# Altium schematic symbol library UWRT Schematic Library.SchLib: 510 symbols (part 2 of 5)
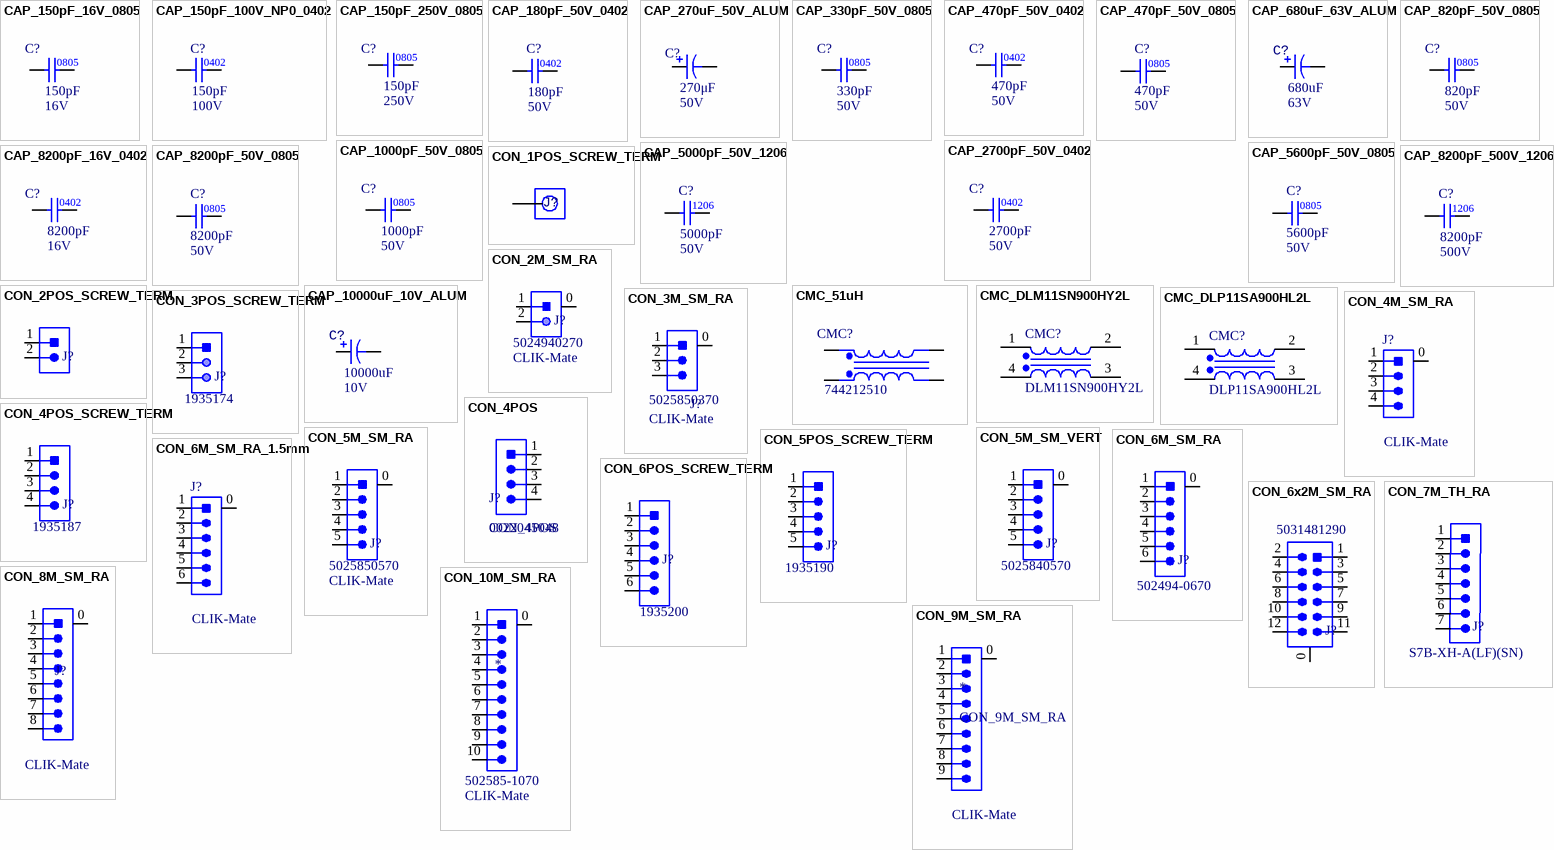
[diagram p18: symbols CAP_150pF_16V_0805 to CON_10M_SM_RA]

## CON_9M_SM_RA
designator *  Family: CLIK-Mate
CONN RCPT 9POS CLIK-MATE 0.059 TIN SMD R/A; Current Rating: 2A; Pitch: 1.5mm; Supplier 1: Digi-Key; Orientation: Right Angle; Supplier Part Number 1: WM20816CT-ND
footprint Molex-5025850970
pins: 0, 1, 2, 3, 4, 5, 6, 7 6, 8 6, 9

## CON_10M_SM_RA
designator *  Family: CLIK-Mate  Manufacturer Part Number 1: 502585-1070  (hidden comment: CON_10M_SM_RA)
CONN HEADER SMD RIGHT ANGLE 1.5 MM PITCH; Manufacturer 1: Molex; Current Rating: 2A; Voltage Rating: 100V; Pitch: 1.5mm; Supplier 1: Digi-Key; Supplier Part Number 1: WM14472CT-ND; Orientation: Right Angle
footprint MOLEX-5025851070
pins: 0, 1, 2, 3, 4, 5, 6, 7 6, 8 6, 9, 10

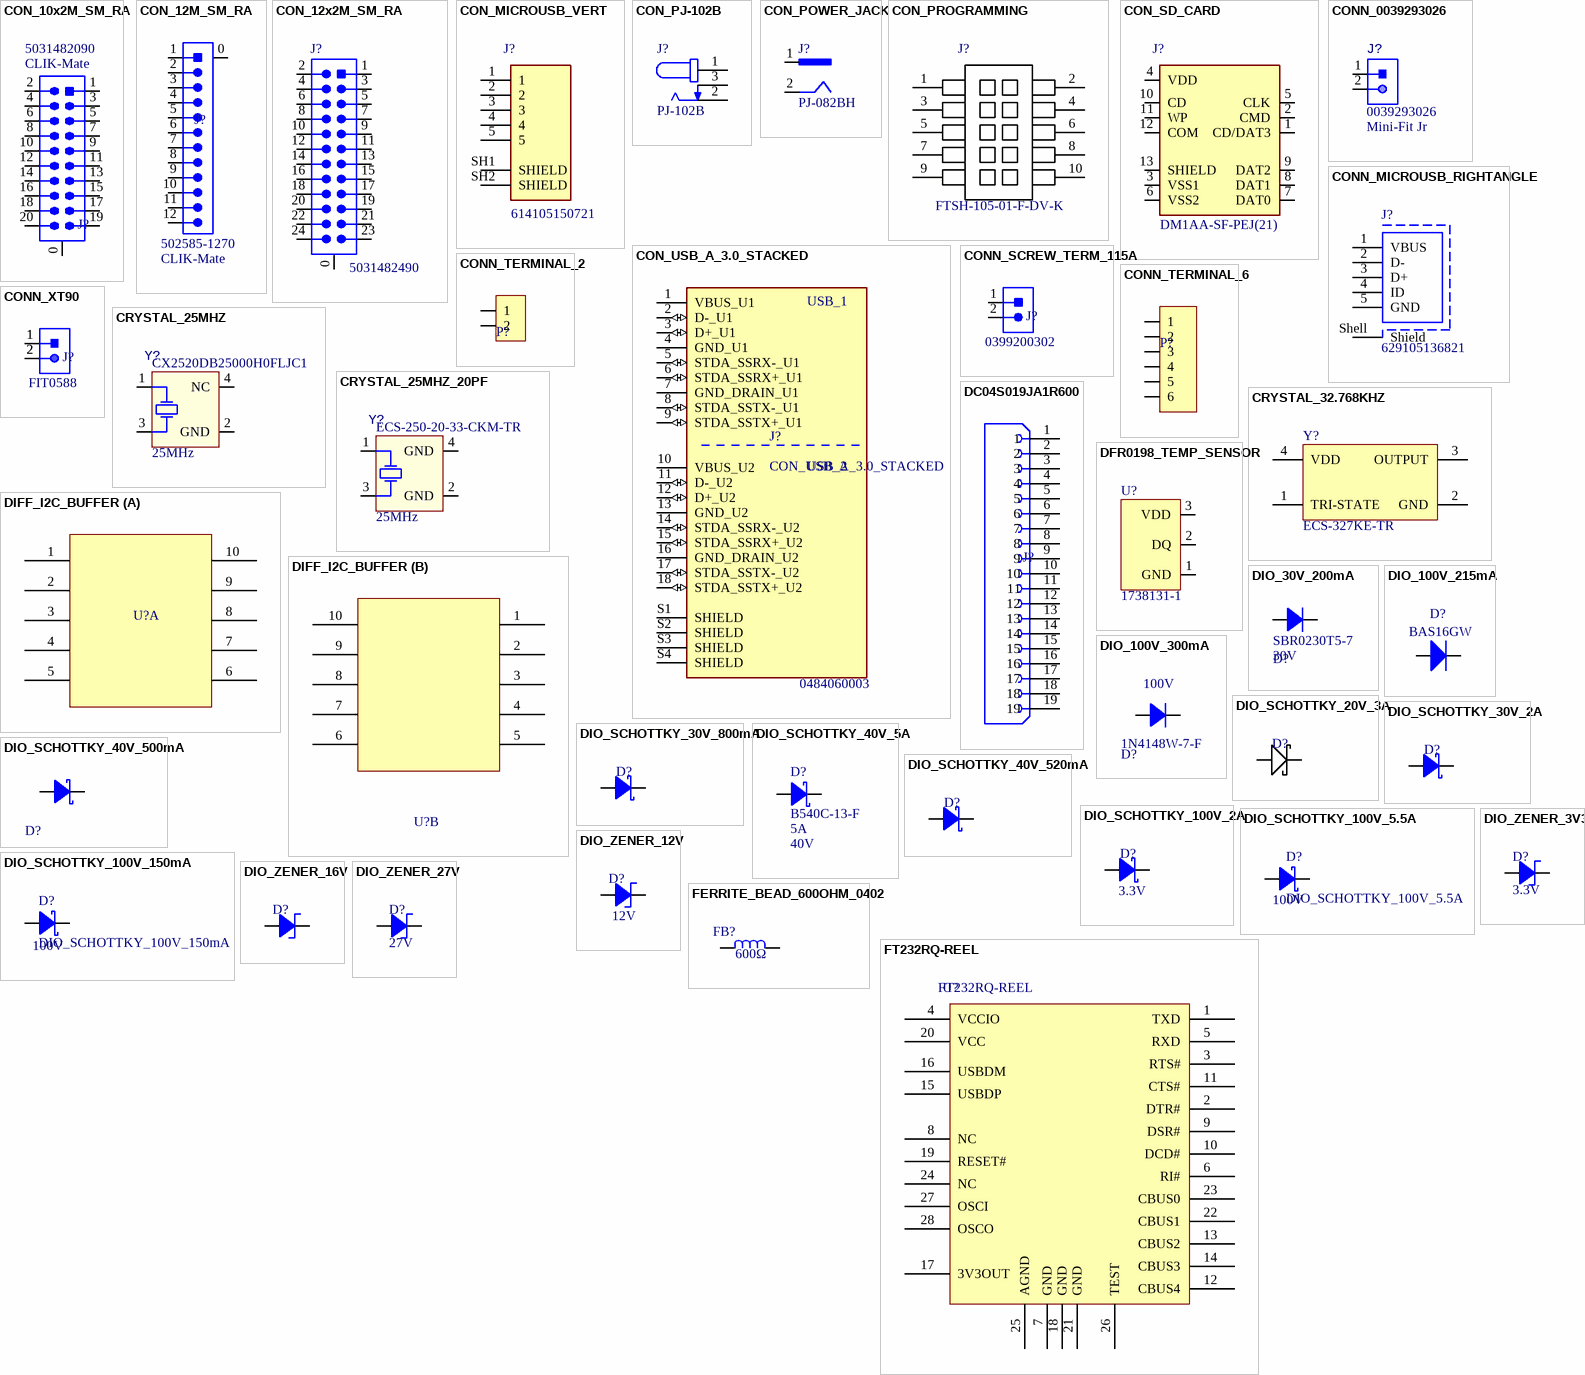
[diagram p4: symbols CON_10x2M_SM_RA to FT232RQ-REEL]

## CON_10x2M_SM_RA
designator J?  Family: CLIK-Mate  Manufacturer Part Number 1: 5031482090  (hidden comment: CON_10x2M_SM_RA)
CONN HEADER SMD RIGHT ANGLE 1.5MM PITCH; Manufacturer 1: Molex; Voltage Rating: 100V; Current Rating: 1A; Supplier 1: Digi-Key; Orientation: Right Angle; Pitch: 1.5mm; Supplier Part Number 1: WM9451CT-ND
footprint MOLEX-5031482090 (Molex 5024940670 20 pin 1.5 mm pitch SMD RA connector)
pins: 0, 1, 2, 3, 4, 5, 6, 7, 8, 9, 10, 11, 12, 13, 14, 15, 16, 17, 18, 19, 20

## CON_12M_SM_RA
designator J?  Family: CLIK-Mate  Manufacturer Part Number 1: 502585-1270  (hidden comment: CON_12M_SM_RA)
CONN HEADER SMD RIGHT ANGLE 1.5MM PITCH; Manufacturer 1: Molex; Current Rating: 2A; Voltage Rating: 100V; Supplier 1: Digi-Key; Mounting Type: SMD; Package/Footprint: SMD; Orientation: Right Angle; Pitch: 1.5mm; Supplier Part Number 1: WM14473CT-ND
footprint MOLEX-5025851270
pins: 0, 1, 2, 3, 4, 5, 6, 7 6, 8 6, 9, 10, 11, 12

## CON_12x2M_SM_RA
designator J?  Manufacturer Part Number 1: 5031482490  (hidden comment: CON_12x2M_SM_RA)
CONN HEADER SMD RIGHT ANGLE 1.5MM PITCH; Manufacturer 1: Molex; Voltage Rating: 100V; Current Rating: 2A; Supplier 1: Digi-Key; Mounting Type: SMD; Package/Footprint: SMD; Orientation: Right Angle; Pitch: 1.5mm; Supplier Part Number 1: WM20820CT-ND; Family: CLIK-Mate
footprint MOLEX-5031482490 (Molex 5031482490 24 pin 1.5 mm pitch SMD RA connector)
pins: 0, 1, 2, 3, 4, 5, 6, 7, 8, 9, 10, 11, 12, 13, 14, 15, 16, 17, 18, 19, 20, 21, 22, 23, 24

## CON_MICROUSB_VERT
designator J?  Manufacturer Part Number 1: 614105150721  (hidden comment: CON_MICROUSB_VERT)
CONN RCPT USB2.0 MICRO B VERT; Manufacturer 1: Wurth Electronics; Package/Footprint: SMD; Supplier Part Number 1: 732-5958-1-ND; Supplier 1: Digi-Key; Mounting Type: SMD
footprint USB_CON (WURTH_614105150721)
pins: 1, 2, 3, 4, 5, SH1 SHIELD, SH2 SHIELD

## CON_PJ-102B
designator J?  Manufacturer Part Number 1: PJ-102B  (hidden comment: CON_PJ-102B)
CONN PWR JACK 2.5X5.5MM SOLDER; Manufacturer 1: CUI Devices; Package/Footprint: TH; Supplier 1: Digi-Key; Mounting Type: TH; Supplier Part Number 1: CP-102B-ND
footprint CUI_PJ-102B
pins: 1, 2, 3

## CON_POWER_JACK
designator J?  Manufacturer Part Number 1: PJ-082BH
CONN PWR JACK 2.5X5.5MM SOLDER; Manufacturer 1: CUI Devices; Voltage Rating: 24VDC; Current Rating: 10A; Supplier 1: Digi-Key; Supplier Part Number 1: CP-082BHCT-ND
footprint CUI_PJ-082BH
pins: 1, 2

## CON_PROGRAMMING
designator J?  Manufacturer Part Number 1: FTSH-105-01-F-DV-K  (hidden comment: CON_PROGRAMMING)
CONN HEADER SMD 10POS 1.27MM; Manufacturer 1: Samtec; Supplier 1: Digi-Key; Mounting Type: SMD; Pitch: 1.27mm; Supplier Part Number 1: SAM8796-ND
footprint FTSH-105-01-F-DV-K-P-TR (Samtec programming header 10 positions)
pins: 1, 2, 3, 4, 5, 6, 7, 8, 9, 10

## CON_SD_CARD
designator J?  Manufacturer Part Number 1: DM1AA-SF-PEJ(21)  (hidden comment: CON_SD_CARD)
CONN SD CARD PUSH-PUSH R/A SMD; Manufacturer 1: Hirose Electric Co Ltd; Supplier 1: Digi-Key; Supplier Part Number 1: HR845CT-ND
footprint HRS_DM1AA-SF-PEJ(21)
pins: 1 CD/DAT3, 2 CMD, 3 VSS1 (power), 4 VDD (power), 5 CLK, 6 VSS2 (power), 7 DAT0, 8 DAT1, 9 DAT2, 10 CD, 11 WP, 12 COM, 13 SHIELD

## CON_USB_A_3.0_STACKED
designator J?  Manufacturer Part Number 1: 0484060003
CONN RCPT USB3.0 TYPEA STACK R/A; Manufacturer 1: Molex; Specifications: USB 3.2 Gen 1; Current Rating: 0.25A, 1.8A; Voltage Rating: 30VAC/DC; Number of Ports: 2; Supplier 1: Digi-Key; Supplier Part Number 1: WM10420-ND; Mounting Type: Through Hole, Right Angle
footprint MOLEX_0484060003
pins: 1 VBUS_U1 (power), 2 D-_U1 (io), 3 D+_U1 (io), 4 GND_U1 (power), 5 STDA_SSRX-_U1 (io), 6 STDA_SSRX+_U1 (io), 7 GND_DRAIN_U1 (power), 8 STDA_SSTX-_U1 (io), 9 STDA_SSTX+_U1 (io), 10 VBUS_U2 (power), 11 D-_U2 (io), 12 D+_U2 (io), 13 GND_U2 (power), 14 STDA_SSRX-_U2 (io), 15 STDA_SSRX+_U2 (io), 16 GND_DRAIN_U2 (power), 17 STDA_SSTX-_U2 (io), 18 STDA_SSTX+_U2 (io), S1 SHIELD, S2 SHIELD, S3 SHIELD, S4 SHIELD
text: USB_1; USB_2

## CONN_0039293026
designator J?  Manufacturer Part Number 1: 0039293026  Family: Mini-Fit Jr
CONN HEADER VERT 2POS MINI-FIT; Manufacturer 1: Molex; Package/Footprint: TH; Supplier 1: Digi-Key; Mounting Type: TH; Supplier Part Number 1: WM3843-ND; Verified: No
footprint 0039293026
pins: 1, 2

## CONN_MICROUSB_RIGHTANGLE
designator J?  Manufacturer Part Number 1: 629105136821
CONN RCPT USB2.0 MICRO B SMD R/A; Manufacturer 1: Wurth Elektronik; Supplier 1: Digi-Key; Supplier Part Number 1: 732-3155-1-ND
footprint 629105136821 (Micro USB 2.0 SMT Type B Horizontal 5 Contacts)
pins: 1 VBUS, 2 D-, 3 D+, 4 ID, 5 GND, Shell Shield

## CONN_SCREW_TERM_115A
designator J?  Manufacturer Part Number 1: 0399200302  (hidden comment: CONN_SCREW_TERM_115A)
CONN TERM BLOCK 2POS 15MM 1-8AWG; Manufacturer 1: Molex; Pitch: 0.591inch; Wire Gauge (Max): 8AWG; Wire Gauge (Min): 1AWG; Supplier 1: Digi-Key; Supplier Part Number 1: WM20114-ND
footprint MOLEX-0399200302 (CONN, 4-Leads, Body 10.01x8.18mm, Pitch 2.54mm)
pins: 1, 2

## CONN_TERMINAL_2
designator P?  (value not drawn)
Header, 2-Pin; Manufacturer Part Number 1: OSTYK51102030; Manufacturer 1: On Shore Technology Inc.; Supplier Part Number 1: ED2953-ND; Supplier 1: Digi-Key
footprint OSTYK51102030 (Connector; Header; 2 Position)
pins: 1, 2

## CONN_TERMINAL_6
designator P?  (value not drawn)
Header, 6-Pin; Manufacturer 1: On-Shore Technology; Manufacturer Part Number 1: OSTYK51106030; Voltage Rating: 300V; Wire Gauge (Max): 22AWG; Wire Gauge (Min): 10AWG; Supplier 1: Digi-Key; Supplier Part Number 1: ED2957-ND
footprint OSTYK51106030 (Connector; Header; 6 Position)
pins: 1, 2, 3, 4, 5, 6

## CONN_XT90
designator J?  Manufacturer Part Number 1: FIT0588  (hidden comment: CONN_XT90)
HIGH QUALITY GOLD PLATED XT90 MA; Manufacturer 1: DFRobot; Package/Footprint: TH; Supplier 1: Digi-Key; Supplier Part Number 1: 1738-1438-ND; Mounting Type: TH
footprint XT90
pins: 1, 1, 2, 2

## CRYSTAL_25MHZ
designator Y?  Frequency: 25MHz  Manufacturer Part Number 1: CX2520DB25000H0FLJC1  (hidden comment: CRYSTAL_25MHZ)
CRYSTAL 25.0000MHZ 12PF SMD; Manufacturer 1: Kyocera AVX; Mounting Type: SMD; Package/Footprint: SMD; Load Capacitance: 12pF; Supplier 1: Digi-Key; Supplier Part Number 1: 1253-1724-1-ND
footprint SOIC254P1016X440-4N
pins: 1 HOT, 2 GND (power), 3 HOT, 4 NC

## CRYSTAL_25MHZ_20PF
designator Y?  Frequency: 25MHz  Manufacturer Part Number 1: ECS-250-20-33-CKM-TR  (hidden comment: CRYSTAL_25MHZ_20PF)
CRYSTAL 25.0000MHZ 20PF SMD; Manufacturer 1: ECS Inc.; Mounting Type: SMD; Package/Footprint: SMD; Load Capacitance: 20pF; Supplier 1: Digi-Key; Supplier Part Number 1: XC1817CT-ND
footprint XTAL_ECS-250-20-33-CKM-TR
pins: 1 HOT, 2 GND (power), 3 HOT, 4 GND

## CRYSTAL_32.768KHZ
designator Y?  Manufacturer Part Number 1: ECS-327KE-TR
XTAL OSC XO 32.7680KHZ CMOS SMD; Manufacturer 1: ECS Inc.; Voltage - Supply: 1.5V - 5.5V; Current - Supply (Max): 1.5uA; Frequency: 32.768kHz; Supplier 1: Digi-Key; Supplier Part Number 1: XC1751CT-ND
footprint OSC_ECS-327KE-TR
pins: 1 TRI-STATE, 2 GND, 3 OUTPUT, 4 VDD

## DC04S019JA1R600
designator J?
HDMI HDMI 2.1 Receptacle Connector 19 Position Surface Mount, Right Angle; Through Hole; Manufacturer 1: JAE Electronics; Manufacturer Part Number 1: DC04S019JA1R600; Current Rating: 0.5A; Supplier 1: Digi-Key; Supplier Part Number 1: 670-3154-1-ND; Specifications: HDMI 2.1; Mounting Type: Surface Mount, Right Angle; Through Hole
footprint JAE_DC04S019JA1R600
pins: 1, 2, 3, 4, 5, 6, 7, 8, 9, 10, 11, 12, 13, 14, 15, 16, 17, 18, 19

## DFR0198_TEMP_SENSOR
designator U?  Manufacturer Part Number 1: 1738131-1
WATERPROOF DS18B20 DIGITAL TEMP SENSOR; Manufacturer 1: TE Connectivity AMP; Supplier 1: Digi-Key; Supplier Part Number 1: 1738-1311-ND
pins: 1 GND, 2 DQ, 3 VDD

## DIFF_I2C_BUFFER
designator U?, comment PCA9615DPJ  (value not drawn)
IC DIFF I2C BUFFER 2CH 10TSSOP; Manufacturer 1: NXP Semiconductors; Number of Channels: 2; Operating Supply Current: 16uA; Input: 2-Wire Bus; Max Frequency: 1MHz; Supplier 1: Digi-Key; Number of Pins: 10; Supplier Part Number 1: 568-11484-1-ND
footprint PCA9615DPJ (TSSOP-10)
part A pins: 1 VDDA, 2 SDA, 3 EN, 4 SCL, 5 VSS, 6 DSCLM, 7 DSCLP, 8 DSDAP, 9 DSDAM, 10 VDDB
part B pins: 1 VDDA, 2 SDA, 3 EN, 4 SCL, 5 VSS, 6 DSCLM, 7 DSCLP, 8 DSDAP, 9 DSDAM, 10 VDDB

## DIO_30V_200mA
designator D?  value 30V  Manufacturer Part Number 1: SBR0230T5-7
DIODE SBR 30V 200MA SOD523; Manufacturer 1: Diodes Incorporated; Supplier 1: Digi-Key; Supplier Part Number 1: SBR0230T5-7TR-ND
footprint SOD523 (ESD5Z3.3T1G)
pins: 1, 2

## DIO_100V_215mA
designator D?  Manufacturer Part Number 1: BAS16GW  (hidden comment: DIO_100V_215mA)
DIODE GEN PURP 100V 215MA SOD123; Manufacturer 1: Nexperia; Package/Footprint: SOD-123; Package: SOD-123; Supplier Part Number 1: 1727-7320-1-ND; Supplier 1: Digi-Key; Mounting Type: SMD; Verified: No
footprint DIODSOD-123 (SOD-123, 2-Leads, Body 2.85x1.7mm (max), Pitch 3.7mm)
pins: 1 A, 2 K

## DIO_100V_300mA
designator D?, comment value 100V  (hidden comment: 1N4148W-7-F)
DIODE GEN PURP 100V 300MA SOD123; Manufacturer 1: Diodes Incorporated; Device Class L2: Diodes; Supplier 1: Digi-Key; Supplier Part Number 1: 1N4148W-FDICT-ND; Manufacturer Part Number 1: 1N4148W-7-F
footprint SOD-123_FLAT
pins: 1, 2

## DIO_SCHOTTKY_20V_3A
designator D?  (value not drawn)
DIODE SCHOTTKY 20V 3A SMC; Part number: SS32; Manufacturer 1: ON Semiconductor / Fairchild; Supplier Part Number 1: SS32CT-ND; Supplier 1: Digi-Key; Manufacturer Part Number 1: SS32
footprint SS32 (Schottky Diode)
pins: 1 K, 2 A

## DIO_SCHOTTKY_30V_2A
designator D?  (value not drawn)
DIODE SCHOTTKY 30V 2A PMDTM; Manufacturer 1: Rohm Semiconductor; Manufacturer Part Number 1: RSX205LAM30TR; Vf (Max): 490mV; Package/Footprint: SOD-128; Supplier 1: Digi-Key; Supplier Part Number 1: RSX205LAM30CT-ND; Mounting Type: SMD; Vr (Max): 30V; Io: 2A
footprint SOD-128
pins: 1 Anode, 1 Anode, 2 Cathode, 2 Cathode

## DIO_SCHOTTKY_30V_800mA
designator D?  (value not drawn)
DIODE SCHOTTKY 30V 800MA USC; Manufacturer 1: Toshiba Semiconductor and Storage; Manufacturer Part Number 1: CUS08F30,H3F; Vf (Max): 220mV; Supplier 1: Digi-Key; Supplier Part Number 1: CUS08F30H3FCT-ND; Mounting Type: SMD; Vr (Max): 30V; Io: 800mA
footprint SOD-323_UNIDIR
pins: 1 Anode, 2 Cathode

## DIO_SCHOTTKY_40V_5A
designator D?  Manufacturer Part Number 1: B540C-13-F  Forward Current: 5A  Voltage: 40V  (hidden comment: DIO_SCHOTTKY_40V_5A)
DIODE SCHOTTKY 40V 5A SMC; Manufacturer 1: Diodes; Peak Reverse Current: 500uA; Peak Non-Repetitive Surge Current: 100A; Forward Voltage: 550mV; Capacitance: 300pF; Supplier 1: Digi-Key; Mounting Type: SMD; Package/Footprint: SMC; Max Repetitive Reverse Voltage (Vrrm): 40V; Max Forward Surge Current (Ifsm): 100A; Voltage Rating (DC): 40V; Current Rating: 5A; Max Reverse Voltage (DC): 40V; Current: 5A; Supplier Part Number 1: B540C-FDIDKR-ND; LCSC Part #: C72264
footprint DO214AB SMC (Molded Diode, 2-Leads, Body 6.85x5.90mm, IPC Medium Density)
pins: 1 Anode, 2 Cathode

## DIO_SCHOTTKY_40V_500mA
designator D?  (value not drawn)
DIODE SCHOTTKY 40V 500MA SOD123; Manufacturer 1: Diodes Incorporated; Manufacturer Part Number 1: B0540W-7-F; Value: 170pF; Max Surge Forward Current: 5.5A; Package: SOD123; Device Class L2: Diodes; Supplier 1: Digi-Key; Supplier Part Number 1: B0540W-FDITR-ND
footprint SOD-123_FLAT
pins: 1, 2

## DIO_SCHOTTKY_40V_520mA
designator D?  (value not drawn)
DIODE SCHOTTKY 40V 520MA SOD323; Manufacturer 1: Diodes Incorporated; Manufacturer Part Number 1: ZLLS400TA; Package/Footprint: SOD-323; Supplier 1: Digi-Key; Supplier Part Number 1: ZLLS400TACT-ND; Mounting Type: SMD; Vr (Max): 40V; Io: 520mA
footprint SOD-323
pins: 1 Anode, 2 Cathode

## DIO_SCHOTTKY_100V_2A
designator D?  (value not drawn)
DIODE SCHOTTKY 100V 2A SOD123F; Manufacturer 1: STMicroelectronics; Manufacturer Part Number 1: STPSH100ZF; Package/Footprint: SOD-123F; Supplier 1: Digi-Key; Supplier Part Number 1: 497-17152-2-ND; Mounting Type: SMD; Verified: No
footprint SOD-123_FLAT
pins: 1 Anode, 2 Cathode
text: 3.3V

## DIO_SCHOTTKY_100V_5.5A
designator D?  Vr (Max): 100V
DIODE SCHOTTKY 100V 5.5A DPAK; Manufacturer 1: Vishay General Semiconductor - Diodes Division; Manufacturer Part Number 1: VS-50WQ10FN-M3; Package/Footprint: TO-252-3, DPak (2 Leads + Tab), SC-63; Supplier 1: Digi-Key; Supplier Part Number 1: VS-50WQ10FN-M3-ND; Mounting Type: SMD
footprint D-PAK (TO-252AA)
pins: 1 Anode, 2 Cathode

## DIO_SCHOTTKY_100V_150mA
designator D?  Vr (Max): 100V
DIODE SCHOTTKY 100V 150MA SOD123; Manufacturer 1: Comchip Technology; Manufacturer Part Number 1: CDBW46-G; Package/Footprint: SOD-123; Mounting Type: SMD; Supplier 1: Digi-Key; Supplier Part Number 1: 641-1964-1-ND
footprint SOD-123_FLAT
pins: 1 Anode, 2 Cathode

## DIO_ZENER_3V3
designator D?  Working Voltage: 3.3V  (hidden comment: DIO_ZENER_3V3)
DIODE ZENER 3.3V 200mW SOD323F; Manufacturer 1: ON Semiconductor / Fairchild; Manufacturer Part Number 1: MM3Z3V3B; Forward Voltage: 1V; Supplier Part Number 1: MM3Z3V3BCT-ND; Supplier 1: Digi-Key; Package/Case: SOD323F
footprint DIO_ZENER_3V3 (DIODE ZENER 3.3V 200MW SOD323F)
pins: 1 Anode, 2 Cathode

## DIO_ZENER_12V
designator D?  Voltage Rating (DC): 12V  (hidden comment: DIO_ZENER_12V)
DIODE ZENER 12V 300mW SMD SOD-323; Manufacturer 1: ON Semiconductor; Manufacturer Part Number 1: MM3Z12VST1G; Forward Voltage: 900mV; Supplier 1: Digi-Key; Working Voltage: 12V; Supplier Part Number 1: MM3Z12VST1GOSCT-ND
footprint SOD-323
pins: 1 Anode, 2 Cathode

## DIO_ZENER_16V
designator D?  (value not drawn)
DIODE ZENER 16V 500MW SOD123; Manufacturer Part Number 1: MMSZ5246B-7-F; Manufacturer 1: Diodes Incorporated; Forward Voltage: 900mV; Supplier 1: Digi-Key; Supplier Part Number 1: MMSZ5246B-FDITR-ND
footprint SOD-123_FLAT
pins: 1 Anode, 2 Cathode

## DIO_ZENER_27V
designator D?  Working Voltage: 27V
DIODE ZENER 27V 250MW SOT23; Manufacturer 1: Nexperia USA Inc.; Manufacturer Part Number 1: BZX84-C27,215; Forward Voltage: 0.9V; Supplier Part Number 1: 1727-5026-2-ND; Supplier 1: Digi-Key
footprint BZX84-C27,215 (DIODE ZENER 27V 250MW TO236AB)
pins: 1 Anode, 3 Cathode

## FERRITE_BEAD_600OHM_0402
designator FB?  Impedance: 600Ω
FIXED IND 1UH 3.8A 33 MOHM SMD; Manufacturer 1: TDK Corporation; Manufacturer Part Number 1: MMZ1005S601CT000; DC Resistance (DCR) (Max): 520mΩ; Current Rating (Max): 300mA; Impedance @ Frequency: 600Ω @ 100 MHz; Supplier Part Number 1: 445-2162-1-ND; Supplier 1: Digi-Key; Mounting Type: SMD; Package/Footprint: SMD; Package: 0402
footprint RES0402 (Chip Resistor, Body 1x0.5mm, IPC Medium Density)
pins: 1, 2

## FT232RQ-REEL
designator U?
USB Bridge, USB to UART USB 2.0 UART Interface 32-QFN (5x5); Manufacturer: FTDI; Max Frequency: 48MHz; Package Equivalence Code: LCC32,.2SQ,20; Max Supply Voltage: 5.25V; Min Supply Voltage: 3.3V; Max Supply Current: 100uA; Qualification Status: Not Qualified; Supplier 1: Digi-Key; Supplier Part Number 1: 768-1008-1-ND; RoHS: Yes; Category: Interface ICs; Pricing 1: 1=4.70000, 10=4.25000, 50=4.05000, 100=3.85000, 250=3.45000, 500=3.05000, 1000=2.85002, 2500=2.55001 (USD); Package Code: HVQCCN; Number of Pins: 32; Package Shape: Square; Min Operating Temperature: -40°C; Max Operating Temperature: 85°C; JESD-30 Code: S-XQCC-N32; Moisture Sensitivity Level: 3; Package Style: CHIP CARRIER, HEAT SINK/SLUG, VERY THIN PROFILEMeter; Surface Mount: Yes; Technology: CMOS; Terminal Form: No Lead; Terminal Position: QUAD; Length: 5mm; Width: 5mm; Height - Seated (Max): 1mm; Terminal Pitch: 0.5mm; Temperature Grade: INDUSTRIAL; REACH SVHC: Yes; RoHS Compliant: Yes; ComponentLink1URL: https://datasheet.ciiva.com:443/pdfs/VipMasterIC/IC/FTDI/FTDI-S-A0007980421/FTDI-S-A0007980421-1.pdf?src-supplier=IHS+Markit; ComponentLink1Description: https://datasheet.ciiva.com:443/pdfs/VipMasterIC/IC/FTDI/FTDI-S-A0007980421/FTDI-S-A0007980421-1.pdf?src-supplier=IHS+Markit; ComponentLink2URL: https://datasheet.ciiva.com/1505/1647396-1505445.pdf?src-supplier=Digi-Key; ComponentLink2Description: https://datasheet.ciiva.com/1505/1647396-1505445.pdf?src-supplier=Digi-Key; ComponentLink3URL: https://datasheet.ciiva.com/26841/ft232rq-reel-26841082.pdf?src-supplier=IIIC; ComponentLink3Description: https://datasheet.ciiva.com/26841/ft232rq-reel-26841082.pdf?src-supplier=IIIC; ComponentLink4URL: https://datasheet.ciiva.com/16438/ds-ft232r-16438555.pdf?src-supplier=Future+Electronics; ComponentLink4Description: https://datasheet.ciiva.com/16438/ds-ft232r-16438555.pdf?src-supplier=Future+Electronics; ComponentLink5URL: https://datasheet.ciiva.com/15150/getdatasheetpartid-644721-15150509.pdf?src-supplier=Verical; ComponentLink5Description: https://datasheet.ciiva.com/15150/getdatasheetpartid-644721-15150509.pdf?src-supplier=Verical; ComponentLink6URL: https://datasheet.ciiva.com/4787/ds-ft232r-4787663.pdf?src-supplier=Mouser; ComponentLink6Description: https://datasheet.ciiva.com/4787/ds-ft232r-4787663.pdf?src-supplier=Mouser; ComponentLink7URL: https://datasheet.ciiva.com/1787/ds-ft232r-1787041.pdf?src-supplier=Digi-Key; ComponentLink7Description: https://datasheet.ciiva.com/1787/ds-ft232r-1787041.pdf?src-supplier=Digi-Key; ComponentLink8URL: https://datasheet.ciiva.com/1787/ds-ft232r-1787042.pdf?src-supplier=Digi-Key; ComponentLink8Description: https://datasheet.ciiva.com/1787/ds-ft232r-1787042.pdf?src-supplier=Digi-Key; Manufacturer Part Number: FT232RQ-REEL
footprint FT232RQ-REEL_FTD
pins: 1 TXD, 2 DTR#, 3 RTS#, 4 VCCIO, 5 RXD, 6 RI#, 7 GND, 8 NC, 9 DSR#, 10 DCD#, 11 CTS#, 12 CBUS4, 13 CBUS2, 14 CBUS3, 15 USBDP, 16 USBDM, 17 3V3OUT, 18 GND, 19 RESET#, 20 VCC, 21 GND, 22 CBUS1, 23 CBUS0, 24 NC, 25 AGND, 26 TEST, 27 OSCI, 28 OSCO

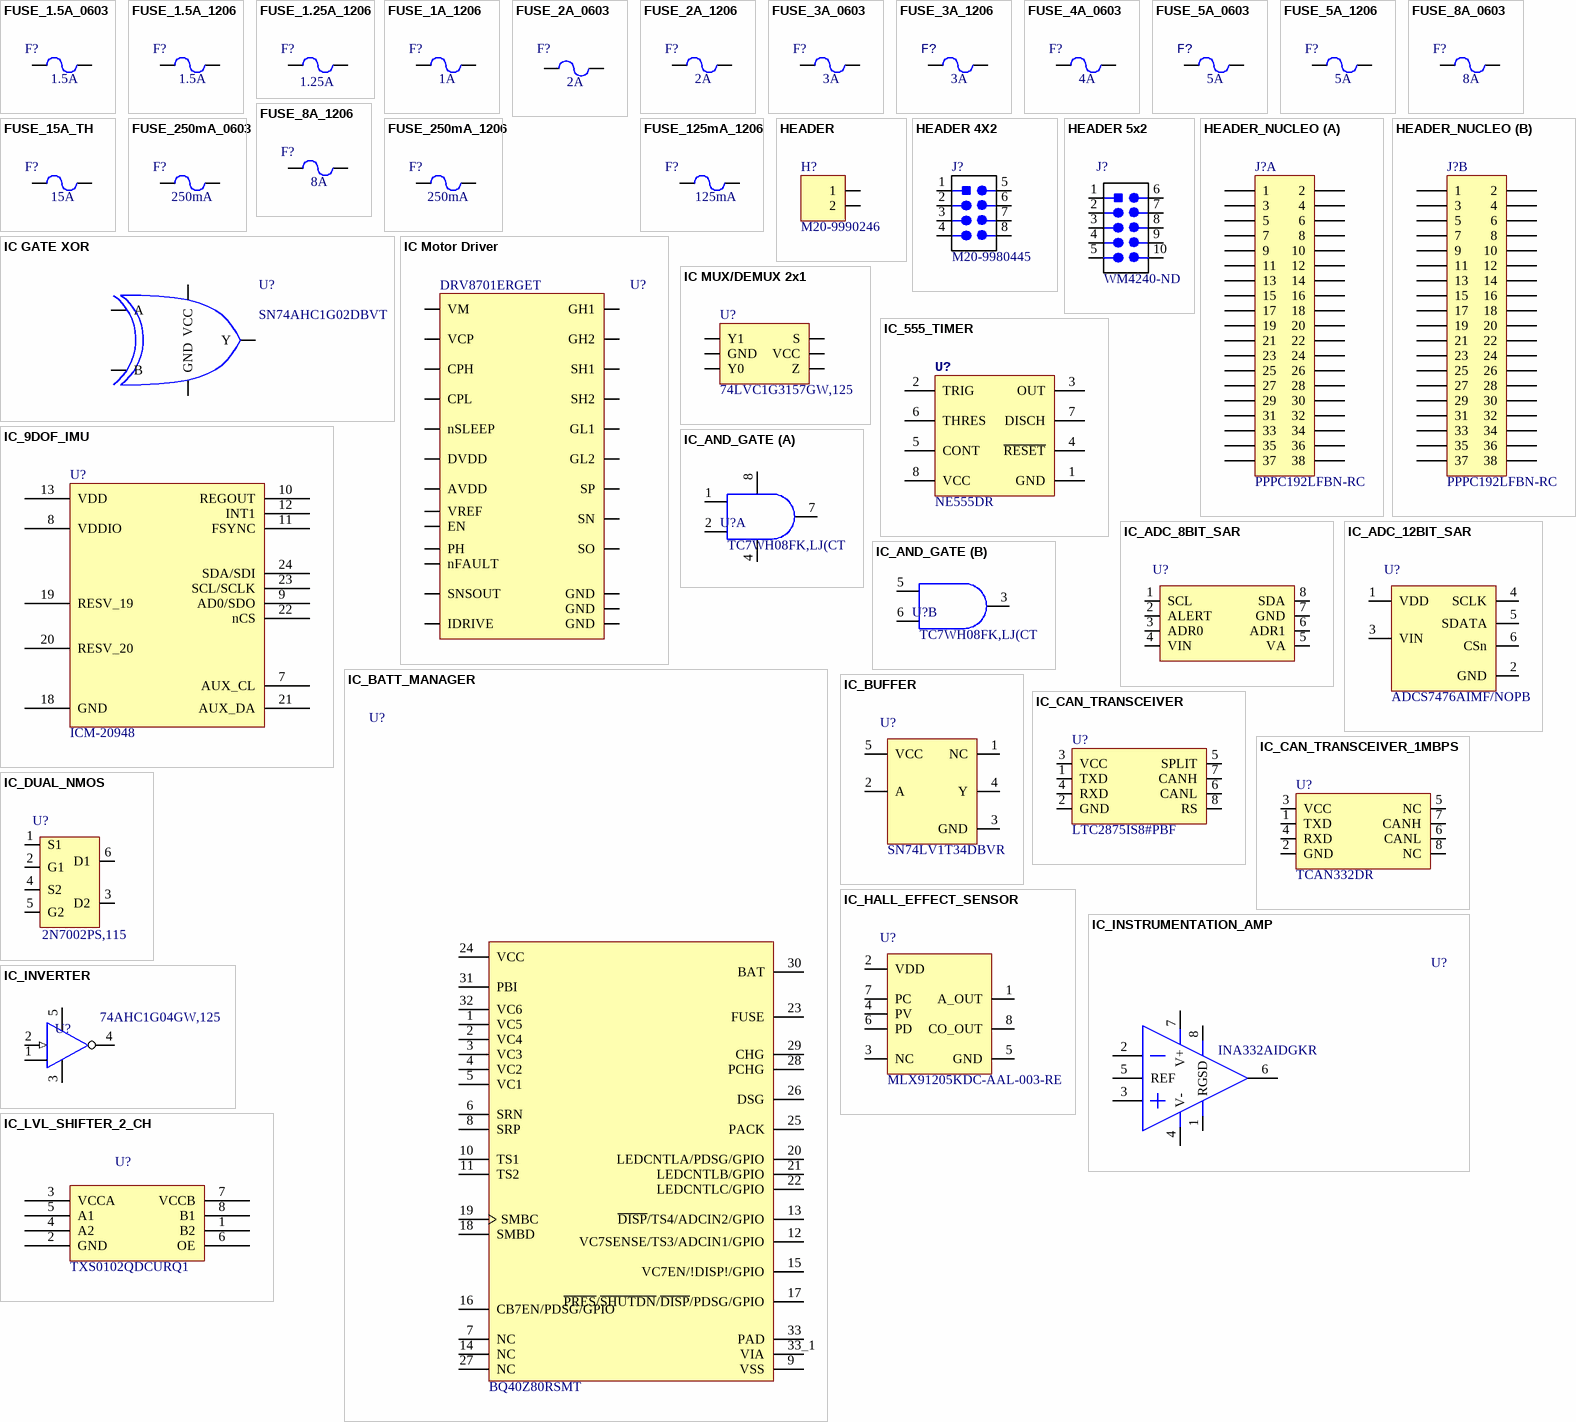
[diagram p5: symbols FUSE_1.5A_0603 to IC_LVL_SHIFTER_2_CH]

## FUSE_1.5A_0603
designator F?  Current Rating: 1.5A
FUSE BOARD MNT 1.5A 32VAC 65VDC / 0603; Manufacturer 1: Littelfuse; Manufacturer Part Number 1: 046701.5NRHF; Voltage Rating (DC): 32V; Package/Footprint: 0603; Supplier 1: Digi-Key; Supplier Part Number 1: F5702CT-ND; Mounting Type: SMD; LCSC Part #: *
footprint FUSE_0603 (Chip Fuse, Body 1.6x0.81mm)
pins: 1, 2

## FUSE_1.5A_1206
designator F?  Current Rating: 1.5A
FUSE SMD 1.5A 63V 1206; Manufacturer 1: Littelfuse; Manufacturer Part Number 1: 046601.5NR; Package/Footprint: 1206; Supplier 1: Digi-Key; Mounting Type: SMD; Voltage Rating (DC): 63V; Supplier Part Number 1: F1462CT-ND
footprint FUSE_1206
pins: 1, 2

## FUSE_1.25A_1206
designator F?  Current Rating: 1.25A
FUSE BOARD MOUNT 1.25A 63VAC/VDC 1206; Manufacturer 1: Littelfuse; Manufacturer Part Number 1: 04661.25NRHF; Voltage Rating (DC): 63V; Package/Footprint: 1206; Supplier 1: Digi-Key; Supplier Part Number 1: F11418CT-ND; Mounting Type: SMD; LCSC Part #: *
footprint FUSE_1206
pins: 1, 2

## FUSE_1A_1206
designator F?  Current Rating: 1A
FUSE BOARD MOUNT 1A 125VAC 63VDC; Manufacturer 1: Bel Fuse Inc.; Manufacturer Part Number 1: C1Q 1; Package/Footprint: 1206; Supplier 1: Digi-Key; Supplier Part Number 1: 507-1077-1-ND; Mounting Type: SMD; LCSC Part #: *
footprint FUSE_1206
pins: 1, 2

## FUSE_2A_0603
designator F?  Current Rating: 2A  (hidden comment: FUSE_2A_0603)
FUSE SMD 2A 32V 0603; Manufacturer Part Number 1: 0467002.NRHF; Manufacturer 1: Littelfuse; Voltage Rating (DC): 32V; Supplier 1: Digi-Key; Supplier Part Number 1: F7132CT-ND
footprint FUSE_0603 (Chip Fuse, Body 1.6x0.81mm)
pins: 1, 2

## FUSE_2A_1206
designator F?  Current Rating: 2A
FUSE SMD 2A 63V 1206; Manufacturer 1: Littelfuse; Manufacturer Part Number 1: 0466002.NRHF; Supplier 1: Digi-Key; Voltage Rating (DC): 63V; Supplier Part Number 1: F5696CT-ND
footprint FUSE_1206
pins: 1, 2

## FUSE_3A_0603
designator F?
FUSE SMD 3A 32V 0603; Manufacturer Part Number 1: 0467003.NR; Manufacturer 1: Littelfuse; Supplier Part Number 1: F1399CT-ND; Supplier 1: Digi-Key; Voltage Rating (DC): 32V; Current Rating: 3A
footprint FUSE_0603 (Chip Fuse, Body 1.6x0.81mm)
pins: 1, 2

## FUSE_3A_1206
designator F?  Current Rating: 3A
FUSE BOARD MNT 3A 32VAC/VDC 1206; Manufacturer 1: Littelfuse; Manufacturer Part Number 1: 0466003.NR; Package/Footprint: 1206; Supplier 1: Digi-Key; Mounting Type: SMD; Supplier Part Number 1: F1458CT-ND
footprint FUSE_1206
pins: 1, 2

## FUSE_4A_0603
designator F?
FUSE SMD 4A 32V 0603; Manufacturer 1: Littelfuse; Manufacturer Part Number 1: 0467004.NR; Supplier 1: Digi-Key; Supplier Part Number 1: F1401CT-ND; Voltage Rating (DC): 32V; Current Rating: 4A
footprint FUSE_0603 (Chip Fuse, Body 1.6x0.81mm)
pins: 1, 2

## FUSE_5A_0603
designator F?  Current Rating: 5A
FUSE SMD 5A 32V 0603; Manufacturer 1: Littelfuse; Manufacturer Part Number 1: 0467005.NR; Supplier 1: Digi-Key; Voltage Rating (DC): 32V; Supplier Part Number 1: F1402CT-ND
footprint FUSE_0603 (Chip Fuse, Body 1.6x0.81mm)
pins: 1, 2

## FUSE_5A_1206
designator F?  Current Rating: 5A
FUSE BOARD MNT 5A 32VAC/VDC 1206; Manufacturer 1: Littelfuse; Manufacturer Part Number 1: 0466005.NRHF; Package/Footprint: 1206; Supplier 1: Digi-Key; Mounting Type: SMD; Supplier Part Number 1: F6019CT-ND
footprint FUSE_1206
pins: 1, 2

## FUSE_8A_0603
designator F?  Current Rating: 8A
FUSE SMD 8A 63V 0603; Manufacturer Part Number 1: 0686F8000-01; Manufacturer 1: Bel; Supplier 1: Digi-Key; Voltage Rating (DC): 63V; Supplier Part Number 1: 507-2160-1-ND
footprint FUSE_0603 (Chip Fuse, Body 1.6x0.81mm)
pins: 1, 2

## FUSE_8A_1206
designator F?  Current Rating: 8A
FUSE SMD 8A 24V 1206; Manufacturer 1: Littelfuse; Manufacturer Part Number 1: 1206SFF800F/24-2; Package/Footprint: 1206; Supplier 1: Digi-Key; Mounting Type: SMD; Supplier Part Number 1: 1206SFF800F/24-2CT-ND; LCSC Part #: C311032
footprint FUSE_1206
pins: 1, 2

## FUSE_15A_TH
designator F?  Current Rating: 15A
FUSE CERM 15A 250VAC 125VDC 3AB; Manufacturer 1: Littelfuse; Manufacturer Part Number 1: 0324015.HXP; Package/Footprint: TH; Supplier 1: Digi-Key; Mounting Type: TH; Supplier Part Number 1: F1870-ND; Verified: No
footprint FUSE (FUSE HOLDER RADIAL 250V 6.3A PCB)
pins: 1, 2

## FUSE_125mA_1206
designator F?  Current Rating: 125mA
FUSE BOARD MNT 125MA 125VAC/VDC; Manufacturer 1: Littelfuse; Manufacturer Part Number 1: 0466.125NR; Package/Footprint: 1206; Voltage Rating (DC): 125V; Supplier 1: Digi-Key; Mounting Type: SMD; Supplier Part Number 1: F1450CT-ND
footprint FUSE_1206
pins: 1, 2

## FUSE_250mA_0603
designator F?  Current Rating: 250mA
FUSE SMD 250mA 32V; Manufacturer 1: Littelfuse; Manufacturer Part Number 1: 0467.250NRHF; Package/Footprint: 0603; Voltage Rating (DC): 32V; Supplier 1: Digi-Key; Mounting Type: SMD; Supplier Part Number 1: F6020CT-ND
footprint FUSE_0603 (Chip Fuse, Body 1.6x0.81mm)
pins: 1, 2

## FUSE_250mA_1206
designator F?  Current Rating: 250mA
FUSE BOARD MNT 250MA 125VAC/VDC; Manufacturer 1: Littelfuse; Manufacturer Part Number 1: 0466.250NR; Package/Footprint: 1206; Supplier 1: Digi-Key; Mounting Type: SMD; Supplier Part Number 1: F1452CT-ND
footprint FUSE_1206
pins: 1, 2

## HEADER
designator H?  Manufacturer Part Number 1: M20-9990246
HEADER 2X1; Manufacturer 1: Harwin Inc.; Package/Footprint: TH; Mounting Type: TH; Supplier 1: Digi-Key; Supplier Part Number 1: 952-2262-ND
footprint HDR1X2 (Connector; Header; 2 Position)
pins: 1, 2

## HEADER 4X2
designator J?  Manufacturer Part Number 1: M20-9980445
CONN HEADER VERT 8POS 2.54MM; Manufacturer 1: Harwin Inc.; Supplier Part Number 1: 952-2122-ND; Supplier 1: Digi-Key
footprint HEADER_2X4
pins: 1 VCC, 2, 3, 4, 5 GND, 6 2, 7 3, 8 4

## HEADER 5x2
designator J?  Supplier Part Number 1: WM4240-ND
CONN HEADER VERT 10POS 2.54MM; Manufacturer 1: Molex; Manufacturer Part Number 1: 0901512210; Supplier 1: Digi-Key; Verified: No
footprint HEADER 2X5 (CONN HEADER VERT 10POS 2.54MM)
pins: 1 VCC, 2, 3, 4, 5, 6 GND, 7, 8, 9, 10

## HEADER_NUCLEO
designator J?  Manufacturer Part Number 1: PPPC192LFBN-RC
CONN HDR 38POS 0.1 GOLD PCB; Manufacturer 1: Sullins; Package/Footprint: TH; Supplier 1: Digi-Key; Mounting Type: TH; Supplier Part Number 1: S7122-ND; Verified: No; LCSC Part #: *
footprint HEADER_NUCLEO (Nucleo board's header)
part A pins: 1, 2, 3, 4, 5, 6, 7, 8, 9, 10, 11, 12, 13, 14, 15, 16, 17, 18, 19, 20, 21, 22, 23, 24, 25, 26, 27, 28, 29, 30, 31, 32, 33, 34, 35, 36, 37, 38
part B pins: 39 1, 40 2, 41 3, 42 4, 43 5, 44 6, 45 7, 46 8, 47 9, 48 10, 49 11, 50 12, 51 13, 52 14, 53 15, 54 16, 55 17, 56 18, 57 19, 58 20, 59 21, 60 22, 61 23, 62 24, 63 25, 64 26, 65 27, 66 28, 67 29, 68 30, 69 31, 70 32, 71 33, 72 34, 73 35, 74 36, 75 37, 76 38

## IC GATE XOR
designator U?  Manufacturer Part Number 1: SN74AHC1G02DBVT
IC GATE NOR 1CH 2-INP SOT23-5; Manufacturer 1: Texas Instruments; Quiescent Current: 1uA; Propagation Delay: 7.5ns; Number of Outputs: 1; Number of Inputs: 2; Low Level Output Current: 8mA; High Level Output Current: -8mA; Turn-On Delay Time: 8.5ns; Number of Pins: 5; Logic Function: NOR; Number of Gates: 1; Number of Input Lines: 2; Number of Output Lines: 1; Number of Circuits: 1; Number of Elements: 1; Number of Bits: 1; Output Current: 8mA; Max Output Current: 8mA; Supplier 1: Digi-Key; Supplier Part Number 1: 296-1094-1-ND
footprint SOT23-5
pins: 1 A, 2 B, 3 GND, 4 Y, 5 VCC

## IC Motor Driver
designator U?  Manufacturer Part Number 1: DRV8701ERGET
IC MOTOR DRIVER 0V-5.5V 24VQFN; Manufacturer 1: Texas Instruments; Supplier 1: Digi-Key; Supplier Part Number 1: 296-42155-1-ND
footprint VFQFPN-24_N (QFN, 24-Leads, Body 4x4mm, Pitch 0.5mm, Thermal Pad 2.5x2.5mm, IPC Medium Density)
pins: 1 VM, 2 VCP, 3 CPH, 4 CPL, 5 GND, 6 VREF, 7 AVDD, 8 DVDD, 9 nFAULT, 10 SNSOUT, 11 SO, 12 IDRIVE, 13 nSLEEP, 14 EN, 15 PH, 16 GND, 17 GH1, 18 SH1, 19 GL1, 20 SN, 21 SP, 22 GL2, 23 SH2, 24 GH2, 25 GND

## IC MUX/DEMUX 2x1
designator U?  Manufacturer Part Number 1: 74LVC1G3157GW,125
IC MUX/DEMUX 2X1 6TSSOP; Manufacturer 1: NXP Semiconductors; Number of Channels: 1; Bandwidth: 300MHz; Propagation Delay: 1ns; Max Power Dissipation: 250mW; On-State Resistance: 15R; Turn-On Delay Time: 8.7ns; Turn-Off Delay Time: 6ns; Operating Supply Current: 40uA; Number of Inputs: 2; Logic Function: Demultiplexer,Demux,Multiplexer,Mux; Supply Type: Single; Supplier 1: Digi-Key; Number of Pins: 6; Number of Outputs: 1; Power Dissipation: 250mW; Number of Circuits: 1; Supplier Part Number 1: 1727-6073-6-ND
footprint IC MUX/DEMUX
pins: 1 Y1, 2 GND, 3 Y0, 4 Z, 5 VCC, 6 S

## IC_9DOF_IMU
designator U?  Manufacturer Part Number 1: ICM-20948
IMU ACCEL/GYRO/COMPI2C/SPI 24QFN; Manufacturer 1: TDK InvenSense; Package/Footprint: 24-QFN; Supplier 1: Digi-Key; Supplier Part Number 1: 1428-1123-1-ND; Mounting Type: SMD; Verified: No
footprint ICM-20948 (24-QFN)
pins: 7 AUX_CL, 8 VDDIO, 9 AD0/SDO, 10 REGOUT, 11 FSYNC, 12 INT1, 13 VDD, 18 GND, 19 RESV_19, 20 RESV_20, 21 AUX_DA, 22 nCS, 23 SCL/SCLK, 24 SDA/SDI

## IC_555_TIMER
designator U?  Manufacturer Part Number 1: NE555DR
IC OSC 555 TIMER 100KHZ 8-SOIC; Manufacturer 1: Texas Instruments; Package/Footprint: 8-SOIC; Supplier 1: Digi-Key; Supplier Part Number 1: 296-6501-1-ND; Mounting Type: SMD; LCSC Part #: *
footprint 8-SOIC_M (SOIC, 8-Leads, Body 5x4mm, Pitch 1.27mm, IPC Low Density)
pins: 1 GND "Ground", 2 TRIG "Start of timing input.", 3 OUT "High current timer output signal", 4 ~{RESET} "Active low reset input forces output and discharge low.", 5 CONT "Controls comparator thresholds, Outputs 2/3 VCC, allows bypass capacitor connection", 6 THRES "End of timing input.", 7 DISCH "Open collector output to discharge timing capacitor", 8 VCC "Input supply voltage, 4.5 V to 16 V."

## IC_ADC_8BIT_SAR
designator U?
IC ADC 8BIT I2C 188KSPS; Manufacturer 1: Texas Instruments; Manufacturer Part Number 1: ADC081C021CIMM/NOPB; Package: 8-VSSOP; Supplier Part Number 1: ADC081C021CIMM/NOPBCT-ND; Supplier 1: Digi-Key; Mounting Type: SMD
pins: 1 SCL, 2 ALERT, 3 ADR0, 4 VIN, 5 VA, 6 ADR1, 7 GND, 8 SDA

## IC_ADC_12BIT_SAR
designator U?  Manufacturer Part Number 1: ADCS7476AIMF/NOPB
IC ADC 12BIT SAR SOT23-6; Manufacturer 1: TI National Semiconductor; Package/Footprint: SOT-23-6; Supplier 1: Digi-Key; Mounting Type: SMD; Supplier Part Number 1: ADCS7476AIMF/NOPBCT-ND
footprint ADCS747x (sot-23-6)
pins: 1 VDD, 2 GND, 3 VIN, 4 SCLK, 5 SDATA, 6 CSn

## IC_AND_GATE
designator U?  Manufacturer Part Number 1: TC7WH08FK,LJ(CT
IC GATE AND 2CH 2-INP US8; Manufacturer 1: Toshiba; Package/Footprint: 8-VFSOP; Supplier 1: Digi-Key; Mounting Type: SMD; Supplier Part Number 1: TC7WH08FKLJ(CTCT-ND; Verified: No; LCSC Part #: *
footprint 8-VFSOP
part A pins: 1 A1, 2 B1, 4 GND, 7 Y1, 8 Vcc
part B pins: 3 Y2, 5 A2, 6 B2

## IC_BATT_MANAGER
designator U?  Manufacturer Part Number 1: BQ40Z80RSMT
IC BATT MFUNC LI-ION 2-7C 32VQFN; Manufacturer 1: Texas Instruments; Supplier Part Number 1: 296-BQ40Z80RSMTCT-ND; Supplier 1: Digi-Key
footprint BQ40Z80RSMT (QFN40P400X400X100-33N_BQ40Z80RSMT(Primary))
pins: 1 VC5, 2 VC4, 3 VC3, 4 VC2, 5 VC1, 6 SRN, 7 NC, 8 SRP, 9 VSS, 10 TS1, 11 TS2, 12 VC7SENSE/TS3/ADCIN1/GPIO, 13 ~{DISP}/TS4/ADCIN2/GPIO, 14 NC, 15 VC7EN/!DISP!/GPIO, 16 CB7EN/PDSG/GPIO, 17 ~{PRES}/~{SHUTDN}/~{DISP}/PDSG/GPIO, 18 SMBD, 19 SMBC, 20 LEDCNTLA/PDSG/GPIO, 21 LEDCNTLB/GPIO, 22 LEDCNTLC/GPIO, 23 FUSE, 24 VCC, 25 PACK, 26 DSG, 27 NC, 28 PCHG, 29 CHG, 30 BAT, 31 PBI, 32 VC6, 33 PAD, 33_1 VIA

## IC_BUFFER
designator U?  Manufacturer Part Number 1: SN74LV1T34DBVR
IC BUF NON-INVERT 5.5V SOT23-5; Manufacturer 1: Texas Instruments; Package/Footprint: SOT-23-5; Supplier 1: Digi-Key; Mounting Type: SMD; Supplier Part Number 1: 296-37176-1-ND; LCSC Part #: C100024
footprint SN74LV1T34DBVR (SOT-23-5, Unidirectional level shifter)
pins: 1 NC "No connect", 2 A "Input A", 3 GND "Ground", 4 Y "Output Y", 5 VCC "Power supply"

## IC_CAN_TRANSCEIVER
designator U?  Manufacturer Part Number 1: LTC2875IS8#PBF
IC TXRX CAN 4MBPS 8SO; Manufacturer 1: Linear Technologies; Package/Footprint: 8-SOIC; Supplier Part Number 1: LTC2875IS8#PBF-ND; Supplier 1: Digi-Key; Mounting Type: SMD; LCSC Part #: C117076
footprint LTC2875 (SOIC, 8-Leads, Body 5x4mm, Pitch 1.27mm, IPC Low Density)
footprint LT-S8_N (SOP, 8-Leads, Body 4.9x3.9mm, Pitch 1.27mm, IPC Medium Density)
pins: 1 TXD, 2 GND, 3 VCC, 4 RXD, 5 SPLIT, 6 CANL, 7 CANH, 8 RS

## IC_CAN_TRANSCEIVER_1MBPS
designator U?  Manufacturer Part Number 1: TCAN332DR
IC TXRX CAN 1MBPS 8SOIC; Manufacturer 1: Texas Instruments; Voltage - Supply: 3V ~ 3.6V; Package/Footprint: 8-SOIC; Receiver Hysteresis: 120 mV; ComponentLink1Description: New link; ComponentLink1URL: *; Supplier 1: Digi-Key; Supplier Part Number 1: 296-43711-1-ND; Data Rate: 1Mbps; Operating Temperature: -40°C ~ 125°C; Mounting Type: Surface Mount
footprint TCAN332DR (SOIC, 8 Leads, Body 5x4mm, Pitch 1.27mm)
pins: 1 TXD, 2 GND, 3 VCC, 4 RXD, 5 NC, 6 CANL, 7 CANH, 8 NC

## IC_DUAL_NMOS
designator U?  Manufacturer Part Number 1: 2N7002PS,115
IC DUAL N-CHANNEL MOSFET; Manufacturer 1: Nexperia; Supplier 1: Digi-Key; Supplier Part Number 1: 1727-4791-1-ND
footprint SOT-363
pins: 1 S1, 2 G1, 3 D2, 4 S2, 5 G2, 6 D1

## IC_HALL_EFFECT_SENSOR
designator U?  Manufacturer Part Number 1: MLX91205KDC-AAL-003-RE  (hidden comment: IC_HALL_EFFECT_SENSOR)
SENSOR CURRENT HALL 10MT AC/DC; Manufacturer 1: Melexis; Package/Footprint: 8-SOIC; Linearity: 0.5%; Accuracy: 2%; Operating Supply Current: 11mA; Response Time: 8us; Max Supply Current: 16mA; Polarity: Bidirectional; Number of Channels: 1; Frequency: 100kHz; Output Current: 1mA; Supplier 1: Digi-Key; Mounting Type: SMD; Number of Pins: 8; Package Quantity: 1; Packaging: Tape and Reel; Supplier Part Number 1: MLX91205KDC-AAL-003-RECT-ND
footprint 8-SOIC_M (SOIC, 8-Leads, Body 5x4mm, Pitch 1.27mm, IPC Low Density)
pins: 1 A_OUT, 2 VDD, 3 NC, 4 PV, 5 GND, 6 PD, 7 PC, 8 CO_OUT

## IC_INSTRUMENTATION_AMP
designator U?  Manufacturer Part Number 1: INA332AIDGKR
IC INSTRUMENTATION AMP 1 CIRCUIT 8VSSOP; Manufacturer 1: Texas Instruments; Supplier 1: Digi-Key; Mounting Type: SMD; Supplier Part Number 1: 296-41265-1-ND; Package: 8-VSSOP
footprint INA332AIDGKR (Instrumentation amplifier, 8-VSSOP)
pins: 1 RG (power), 2 IN-, 3 IN+, 4 V-, 5 REF (power), 6 Vout, 7 V+ (power), 8 SD (power)

## IC_INVERTER
designator U?  Manufacturer Part Number 1: 74AHC1G04GW,125
IC INVERTER 1CH 1-INP 5TSSOP; Manufacturer 1: Nexperia USA Inc.; Package/Footprint: 5-TSSOP; Verfified: No; Supplier 1: Digi-Key; Supplier Part Number 1: 1727-3147-1-ND; Mounting Type: SMD; LCSC Part #: *
footprint SOT353 (TSSOP5, SC-70-5)
pins: 1 NC (hiz), 2 A (in), 3 GND, 4 Y, 5 Vcc

## IC_LVL_SHIFTER_2_CH
designator U?  Manufacturer Part Number 1: TXS0102QDCURQ1
IC TRNSLTR BIDIRECTIONAL US8; Manufacturer 1: Texas Instruments; Supplier 1: Digi-Key; Supplier Part Number 1: 296-37938-1-ND
footprint TXS0102QDCURQ1
pins: 1 B2, 2 GND, 3 VCCA, 4 A2, 5 A1, 6 OE, 7 VCCB, 8 B1

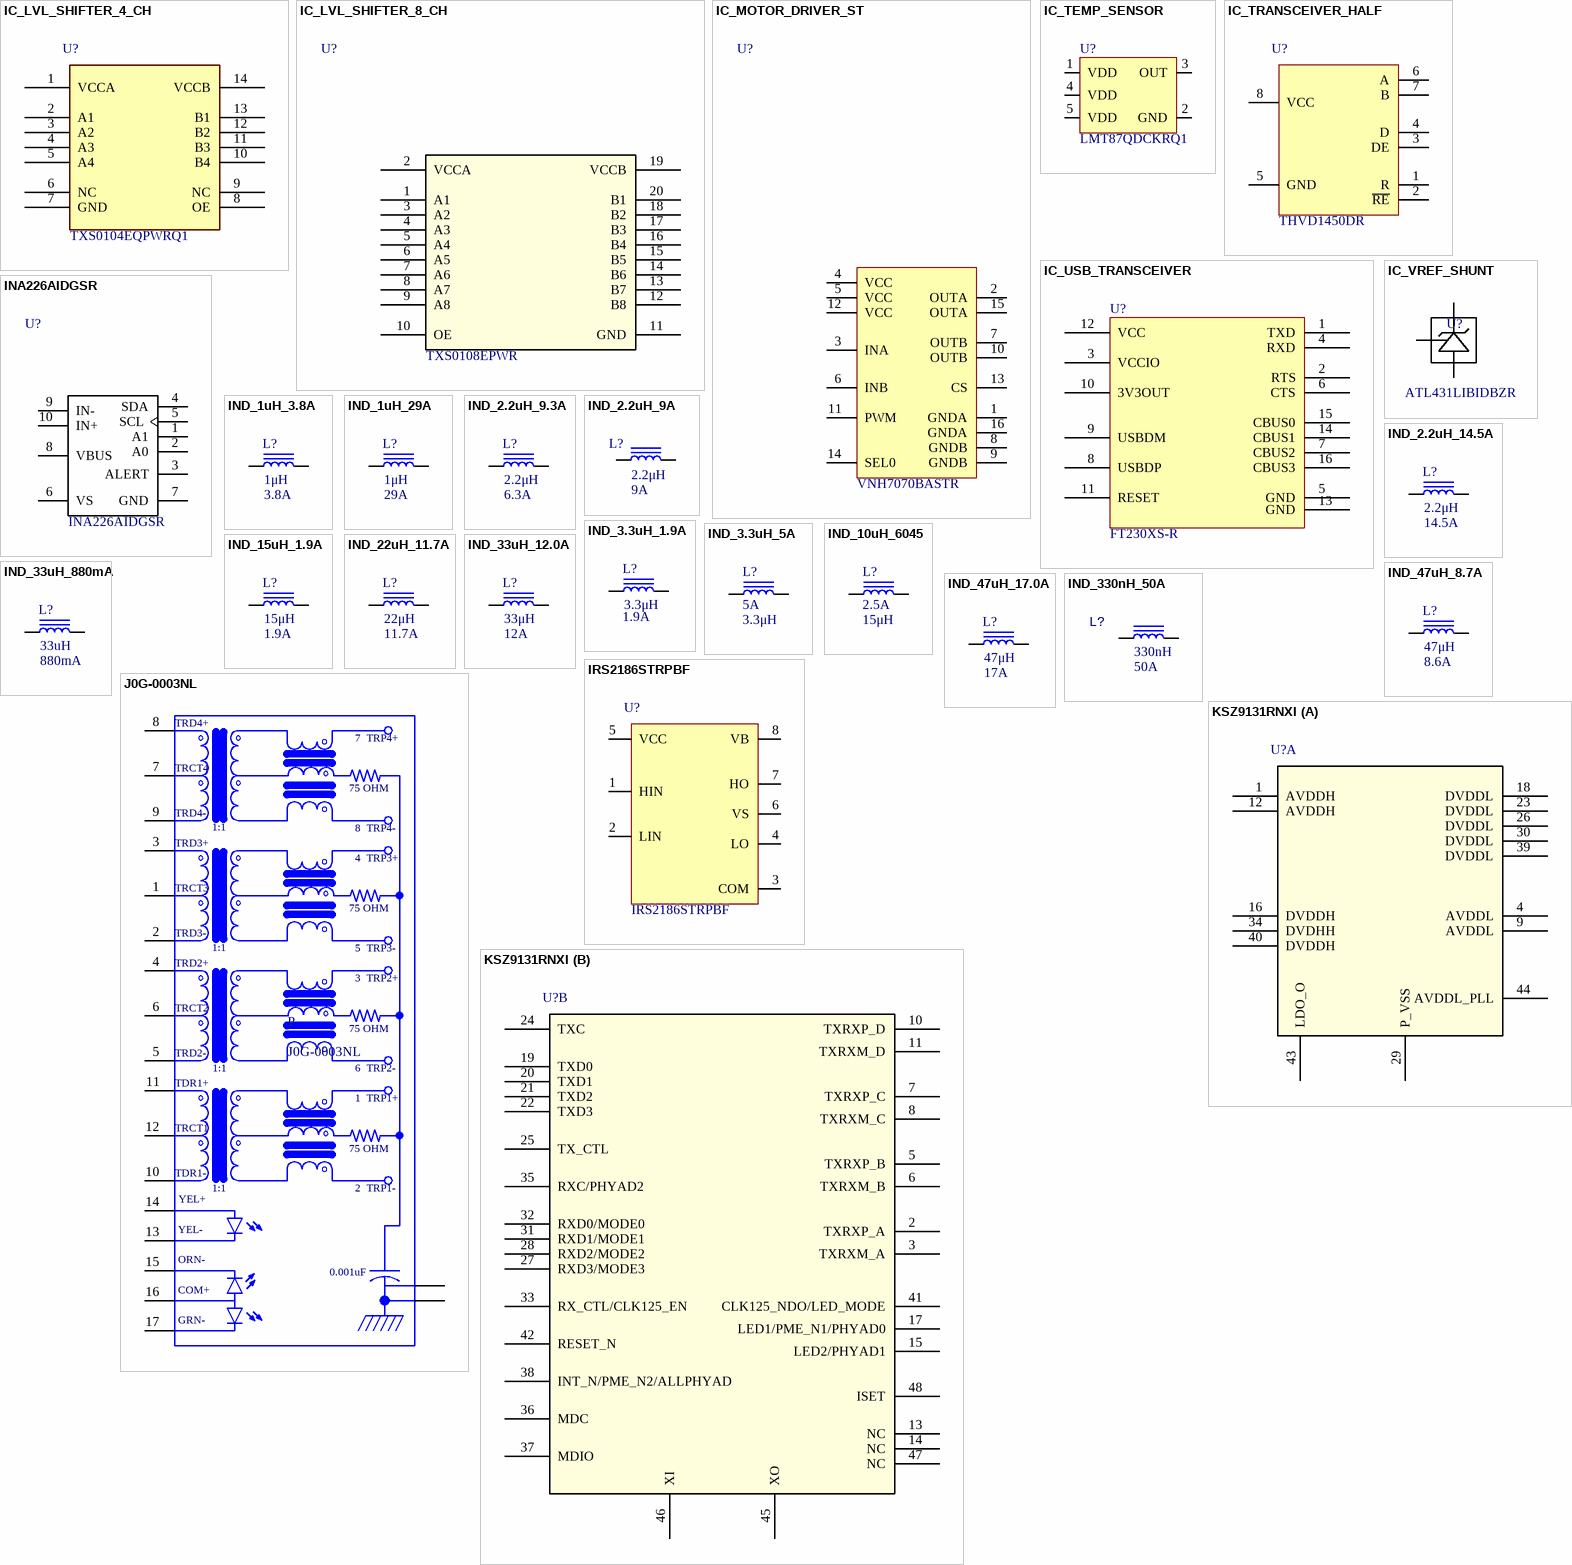
[diagram p6: symbols IC_LVL_SHIFTER_4_CH to KSZ9131RNXI]

## IC_LVL_SHIFTER_4_CH
designator U?  Manufacturer Part Number 1: TXS0104EQPWRQ1
IC BIDIRECTIONAL LEVEL SHIFTER 4 CHANNEL 14TSSOP; Manufacturer 1: Texas Instruments; Data Rate: 24Mbps; Package/Footprint: 14-TSSOP; VCCA Voltage: 1.65 V ~ 3.6 V; VCCB Voltage: 2.3 V ~ 5.5 V; VCCA Max: 3V6 MAX; VCCB Max: 5V5 MAX; Supplier 1: Digi-Key; Mounting Type: SMD; Supplier Part Number 1: 296-41034-1-ND
footprint TXS0104EQPWRQ1
pins: 1 VCCA, 2 A1, 3 A2, 4 A3, 5 A4, 6 NC, 7 GND, 8 OE, 9 NC, 10 B4, 11 B3, 12 B2, 13 B1, 14 VCCB

## IC_LVL_SHIFTER_8_CH
designator U?  Manufacturer Part Number 1: TXS0108EPWR  (hidden comment: IC_LVL_SHIFTER_8_CH)
IC BIDIRECTIONAL LEVEL SHIFTER 8 CHANNEL 20TSSOP; Manufacturer 1: Texas Instruments; Package/Footprint: 20-TSSOP; Supplier 1: Digi-Key; Supplier Part Number 1: 296-23011-1-ND; Mounting Type: SMD
footprint LEVEL_SHIFTER_8_CHANNEL
pins: 1 A1, 2 VCCA, 3 A2, 4 A3, 5 A4, 6 A5, 7 A6, 8 A7, 9 A8, 10 OE, 11 GND, 12 B8, 13 B7, 14 B6, 15 B5, 16 B4, 17 B3, 18 B2, 19 VCCB, 20 B1

## IC_MOTOR_DRIVER_ST
designator U?  Manufacturer Part Number 1: VNH7070BASTR
IC MOTOR DRIVER 4V-28V 16SOIC; Manufacturer 1: STMicroelectronics; Package/Footprint: 16-SOIC; Output Current: 15A; Mounting Type: SMD; Verified: Yes; Supplier 1: Digi-Key; Supplier Part Number 1: 497-17628-1-ND
footprint SO-16N
pins: 1 GNDA (power) "Source of low-side switch A", 2 OUTA "Source of high-side switch A / drain of low-side switch A", 3 INA "Clockwise input", 4 VCC (power) "Power supply voltage", 5 VCC (power) "Power supply voltage", 6 INB "Counter clockwise input", 7 OUTB "Source of high-side switch B / drain of low-side switch B", 8 GNDB (power) "Source of low-side switch B", 9 GNDB (power) "Source of low-side switch B", 10 OUTB "Source of high-side switch B / drain of low-side switch B", 11 PWM "Voltage controlled input pin with hysteresis, CMOS compatible. Gates of low-side FETS get modulated by the PWM signal during their on phase allowing speed control of the motor", 12 VCC (power) "Power supply voltage", 13 CS "Multiplexed analog sense output pin; it delivers a current proportional to the motor current according to the leg selection.", 14 SEL0 "Active high compatible with 3 V and 5 V CMOS outputs pin; in combination with INA, INB, it addresses the CurrentSense information delivered to the micro according to the operative truth table.", 15 OUTA "Source of high-side switch A / drain of low-side switch A", 16 GNDA (power) "Source of low-side switch A"

## IC_TEMP_SENSOR
designator U?  Manufacturer Part Number 1: LMT87QDCKRQ1
SENSOR ANALOG -50C-150C SC70; Manufacturer 1: Texas Instruments; Package/Footprint: SC-70; Supplier Part Number 1: 296-40298-1-ND; Supplier 1: Digi-Key; Mounting Type: SMD; LCSC Part #: C206058
footprint SOT65P210X110-5N
pins: 1 VDD, 2 GND, 3 OUT, 4 VDD, 5 VDD

## IC_TRANSCEIVER_HALF
designator U?  Manufacturer Part Number 1: THVD1450DR
IC TRANSCEIVER HALF 1/1 8SOIC; Manufacturer 1: Texas Instruments; Protocol: RS485; Supplier 1: Digi-Key; Supplier Part Number 1: 296-50395-1-ND; Package: 8-SOIC
footprint SOIC127P600X175-8N
pins: 1 R, 2 ~{RE}, 3 DE, 4 D, 5 GND, 6 A, 7 B, 8 VCC

## IC_USB_TRANSCEIVER
designator U?  Manufacturer Part Number 1: FT230XS-R
IC USB SERIAL BASIC UART 16SSOP; Manufacturer 1: FTDI, Future Technology Devices International Ltd; Supplier 1: Digi-Key; Supplier Part Number 1: 768-1135-1-ND
footprint SSOP16-0.635-5X4MM
pins: 1 TXD, 2 RTS, 3 VCCIO, 4 RXD, 5 GND, 6 CTS, 7 CBUS2, 8 USBDP, 9 USBDM, 10 3V3OUT, 11 RESET, 12 VCC, 13 GND, 14 CBUS1, 15 CBUS0, 16 CBUS3

## IC_VREF_SHUNT
designator U?  Manufacturer Part Number 1: ATL431LIBIDBZR
IC VREF SHUNT 36V 0.5% SOT23-3; Manufacturer 1: Texas Instruments; Supplier 1: Digi-Key; Supplier Part Number 1: 296-53203-1-ND
footprint SOT23-3 (SOT23, 3-Leads, Body 2.90x2.30mm, Pitch 0.95mm, IPC Medium Density)
pins: 1 CATHODE, 2 REF, 3 ANODE

## INA226AIDGSR
designator U?  Manufacturer Part Number 1: INA226AIDGSR
IC MONITOR PWR/CURR BIDIR 10MSOP; Manufacturer 1: Texas Instruments; Supplier 1: Digi-Key; Supplier Part Number 1: 296-29034-6-ND
footprint INA226AIDGSR
pins: 1 A1, 2 A0, 3 ALERT, 4 SDA, 5 SCL, 6 VS, 7 GND, 8 VBUS, 9 IN-, 10 IN+

## IND_1uH_3.8A
designator L?  value 1μH  Current Rating: 3.8A
INDUCTOR 1UH 3.8A 33 MOHM SMD; Manufacturer 1: Bourns Inc.; Manufacturer Part Number 1: SDR0403-1R0ML; Supplier Part Number 1: SDR0403-1R0MLCT-ND; Supplier 1: Digi-Key; Mounting Type: SMD; Package/Footprint: SMD
footprint IND_BOURNS_SDR04
pins: 1, 2

## IND_1uH_29A
designator L?  Current Rating: 29A  Inductance: 1μH
INDUCTOR 1UH 29A 2.5 MOHM SMD; Manufacturer 1: Bourns Inc.; Manufacturer Part Number 1: SRP1250-1R0M; Inductance Tolerance: 20%; Saturation Current: 50A; Test Frequency: 100kHz; DC Resistance (DCR): 2.5mOhm; Mounting Type: SMD; Supplier 1: Digi-Key; Supplier Part Number 1: SRP1250-1R0MCT-ND
footprint IND_BOURNS_SRP1250
pins: 1, 2

## IND_2.2uH_9.3A
designator L?  Inductance: 2.2μH  Max DC Current: 6.3A
INDUCTOR 2.2UH 6.3A 13 MOHM SMD; Manufacturer 1: Bourns; Manufacturer Part Number 1: SRN8040-2R2Y; Material: Steel; DC Resistance (DCR): 13mR; Self Resonant Frequency: 40MHz; Test Frequency: 100kHz; Shielding: Shielded; Inductance Tolerance: 30%; Saturation Current: 7.4A; Supplier 1: Digi-Key; Mounting Type: SMD; Package/Footprint: SMD; Number of Pins: 2; Contact Plating: Tin; Composition: Wirewound; DC Current: 6.3A; Military Standard: Not; RMS Current (Irms): 6.3A; Current Rating: 6.3A; ComponentLink7URL: https://datasheet.ciiva.com/1049/srn8040-1049455.pdf?src-supplier=Digi-Key; ComponentLink7Description: https://datasheet.ciiva.com/1049/srn8040-1049455.pdf?src-supplier=Digi-Key; ComponentLink8URL: https://datasheet.ciiva.com/17284/srn8040-17284783.pdf?src-supplier=Avnet+Europe; ComponentLink8Description: https://datasheet.ciiva.com/17284/srn8040-17284783.pdf?src-supplier=Avnet+Europe; ComponentLink9URL: https://datasheet.ciiva.com/48691/001056460-da-01-en-mag-abg-leist-ind-srn8040-2r2y-2-2uh-smd-48691836.pdf?src-supplier=Conrad; ComponentLink9Description: https://datasheet.ciiva.com/48691/001056460-da-01-en-mag-abg-leist-ind-srn8040-2r2y-2-2uh-smd-48691836.pdf?src-supplier=Conrad; Supplier Part Number 1: SRN8040-2R2YCT-ND
footprint IND_BOURNS_SRN80
pins: 1, 2

## IND_2.2uH_9A
designator L?  Current Rating: 9A  Inductance: 2.2μH
INDUCTOR 2.2UH 9A 6.8 MOHM SMD; Manufacturer 1: Bourns; Manufacturer Part Number 1: SDR1806-2R2ML; Supplier 1: Digi-Key; Mounting Type: SMD; DC Resistance (DCR): 6.8mOhm; Supplier Part Number 1: SDR1806-2R2MLCT-ND
footprint IND_BOURNS_SDR1806
pins: 1, 2

## IND_2.2uH_14.5A
designator L?  Current Rating: 14.5A  Inductance: 2.2μH
INDUCTOR 2.2UH 14.5A 9.41 MOHM; Manufacturer 1: Vishay Dale; Manufacturer Part Number 1: IHLP3232DZER2R2M11; Inductance Tolerance: 20%; Saturation Current: 10.2A; DC Resistance (DCR): 9.41mOhm; Mounting Type: SMD; Supplier 1: Digi-Key; Supplier Part Number 1: 541-1350-1-ND
footprint IND_VISHAY_IHLP3232DZER2R2M11
pins: 1, 2

## IND_3.3uH_1.9A
designator L?  DC Current: 1.9A  Inductance: 3.3μH
INDUCTOR 3.3UH SMD 0603; Manufacturer 1: KEMET; Manufacturer Part Number 1: L0603B3R3MDWFT; Saturation Current: 2.3A; Supplier 1: Digi-Key; RMS Current (Irms): 1.9A; Current Rating: 1.9A; Supplier Part Number 1: SRN6045-150MCT-ND
footprint IND_BOURNS_SRN6045
pins: 1, 2

## IND_3.3uH_5A
designator L?  Current Rating: 5A  Inductance: 3.3μH
INDUCTOR 3.3UH 5A 21 MOHM SMD; Manufacturer 1: Bourns Inc.; Manufacturer Part Number 1: SRN6045TA-3R3Y; DC Resistance (DCR): 21mOhm; Inductance Tolerance: 30%; Saturation Current: 7.8A; Test Frequency: 1MHz; Mounting Type: SMD; Supplier 1: Digi-Key; Supplier Part Number 1: SRN6045TA-3R3YCT-ND
footprint IND_SRN6045TA-3R3Y
pins: 1, 2

## IND_10uH_6045
designator L?  Current Rating: 2.5A  Inductance: 15μH
INDUCTOR 10UH 2.5A 58.6MOHM SMD; Manufacturer 1: Bourns Inc.; Manufacturer Part Number 1: SRN6045-100M; Supplier Part Number 1: SRN6045-100MTR-ND; Supplier 1: Digi-Key
footprint IND_BOURNS_SRN6045
pins: 1, 2

## IND_15uH_1.9A
designator L?  Current Rating: 1.9A  Inductance: 15μH
INDUCTOR 15UH 1.9A 95.8MOHM SMD; Manufacturer 1: Bourns Inc.; Manufacturer Part Number 1: SRN6045-150M; DC Resistance (DCR): 95.8mR; Saturation Current: 2.3A; Supplier 1: Digi-Key; Supplier Part Number 1: SRN6045-150MCT-ND
footprint IND_BOURNS_SRN6045
pins: 1, 2

## IND_22uH_11.7A
designator L?  Current Rating: 11.7A  Inductance: 22μH
INDUCTOR 22UH 11.7A 22.27 MOHM; Manufacturer 1: Vishay Dale; Manufacturer Part Number 1: IHLP6767GZER220M51; DC Resistance (DCR): 22.27mR; Inductance Tolerance: 20%; Saturation Current: 11A; Supplier 1: Digi-Key; Supplier Part Number 1: 541-1369-1-ND; Mounting Type: SMD
footprint IND_VISHAY_IHLP6767GZ51
pins: 1, 2

## IND_33uH_12.0A
designator L?  Current Rating: 12A  Inductance: 33μH
INDUCTOR 33UH 12A 37 MOHM SMD; Manufacturer 1: Pulse Electronics Power; Manufacturer Part Number 1: PA4344.333ANLT; DC Resistance (DCR): 37mR; Inductance Tolerance: 20%; Saturation Current: 12A; Mounting Type: SMD; Supplier 1: Digi-Key; Supplier Part Number 1: 553-4036-1-ND
footprint IND_PULSE_PA4344
pins: 1, 2

## IND_33uH_880mA
designator L?  RMS Current (Irms): 880mA  Inductance: 33uH  (hidden comment: IND_33uH_880mA)
INDUCTOR 33UH 880MA 250MOHM SMD; Manufacturer 1: Bourns; Manufacturer Part Number 1: SDR0604-330KL; DC Resistance (DCR): 250mR; Inductance Tolerance: 10%; Saturation Current: 1.1A; Supplier 1: Digi-Key; Max DC Current: 880mA; DC Current: 880mA; Military Standard: Not; Current Rating: 880mA; Supplier Part Number 1: SDR0604-330KLCT-ND
footprint IND_BOURNS_SDR0604
pins: 1, 2

## IND_47uH_8.7A
designator L?  Saturation Current: 8.6A  Inductance: 47μH
INDUCTOR 47UH 8.7A 42.7 MOHM; Manufacturer 1: Vishay Dale; Manufacturer Part Number 1: IHLP6767GZER220M51; DC Resistance (DCR): 42.7mR; Current Rating: 8.7A; Mounting Type: SMD; Supplier 1: Digi-Key; Supplier Part Number 1: 541-1290-1-ND
footprint IND_VISHAY_IHLP6767GZ51
pins: 1, 2

## IND_47uH_17.0A
designator L?  Current Rating: 17A  Inductance: 47μH
INDUCTOR 47UH 17A 20.8 MOHM SMD; Manufacturer 1: Pulse Electronics Power; Manufacturer Part Number 1: PA4349.473ANLT; DC Resistance (DCR): 20.8mR; Inductance Tolerance: 20%; Saturation Current: 12A; Mounting Type: SMD; Supplier 1: Digi-Key; Supplier Part Number 1: 553-4050-1-ND
footprint IND_PULSE_PA4349
pins: 1, 2

## IND_330nH_50A
designator L?  Max DC Current: 50A  Inductance: 330nH
INDUCTOR 330NH 47.5A 0.165 MOHM; Manufacturer 1: Würth Elektronik; Manufacturer Part Number 1: 744309033; Mounting Type: SMD; Supplier 1: Digi-Key; Supplier Part Number 1: 732-3006-1-ND; Verified: No
footprint WE-HCM 1390 (SMD Inductor, 2-Leads, Body 12,50x13,00mm)
pins: 1, 2

## IRS2186STRPBF
designator U?  Manufacturer Part Number 1: IRS2186STRPBF
IC DRIVER HI/LO SIDE 600V 8-SOIC; Manufacturer 1: International Rectifier; Max Supply Current: 240uA; Number of Outputs: 2; Max Power Dissipation: 625mW; Fall Time: 30ns; Turn-Off Delay Time: 170ns; Rise Time: 38ns; Propagation Delay: 250ns; Max Output Current: 4A; Supplier 1: Digi-Key; Number of Pins: 8; Number of Drivers: 2; Turn-On Delay Time: 170ns; Power Dissipation: 625mW; Output Current: 4A; Supplier Part Number 1: IRS2186STRPBFCT-ND
footprint 8-SOIC_M (SOIC, 8-Leads, Body 5x4mm, Pitch 1.27mm, IPC Low Density)
pins: 1 HIN, 2 LIN, 3 COM, 4 LO, 5 VCC, 6 VS, 7 HO, 8 VB

## J0G-0003NL
designator P
1 Port RJ45 Magjack Connector Through Hole 10/100/1000 Base-T, AutoMDIX; MF: Pulse Electronics; Digi-Key_Part_Number: 553-1852-ND; Package: Custom Package Pulse Electronics Network; MP: J0G-0003NL; SnapEDA_Link: https://www.snapeda.com/parts/J0G-0003NL/Pulse%20Electronics%20Network/view-part/368728/?ref=snap; Digi-Key_Purchase_URL: https://www.digikey.com/product-detail/en/pulse-electronics-network/J0G-0003NL/553-1852-ND/2264761?utm_source=snapeda&utm_medium=aggregator&utm_campaign=symbol; Value: *
footprint PULSE_J0G-0003NL
pins: 1 TRCT3, 2 TRD3-, 3 TRD3+, 4 TRD2+, 5 TRD2-, 6 TRCT2, 7 TRCT4, 8 TRD4+, 9 TRD4-, 10 TDR1-, 11 TDR1+, 12 TRCT1, 13 YEL-, 14 YEL+, 15 ORN-, 16 COM+, 17 GRN-, SH1 SHIELD (power), SH2 SHIELD (power)
text: 7  TRP4+; 75 OHM; 1:1; 8  TRP4-; 4  TRP3+; 5  TRP3-; 3  TRP2+; 6  TRP2-; 1  TRP1+; 2  TRP1-; 0.001uF

## KSZ9131RNXI
designator U?
4/4 Transceiver Full, Half Gigabit Ethernet 48-QFN (7x7); Manufacturer 1: Microchip Technology; Manufacturer Part Number 1: KSZ9131RNXI; Supplier 1: Digi-Key; Supplier Part Number 1: 150-KSZ9131RNXI-ND
footprint KSZ9131RNXI
part A pins: 1 AVDDH (power), 4 AVDDL (power), 9 AVDDL (power), 12 AVDDH (power), 16 DVDDH (power), 18 DVDDL (power), 23 DVDDL (power), 26 DVDDL (power), 29 P_VSS (power), 30 DVDDL (power), 34 DVDHH (power), 39 DVDDL (power), 40 DVDDH (power), 43 LDO_O (power), 44 AVDDL_PLL (power)
part B pins: 2 TXRXP_A, 3 TXRXM_A, 5 TXRXP_B, 6 TXRXM_B, 7 TXRXP_C, 8 TXRXM_C, 10 TXRXP_D, 11 TXRXM_D, 13 NC, 14 NC, 15 LED2/PHYAD1, 17 LED1/PME_N1/PHYAD0, 19 TXD0, 20 TXD1, 21 TXD2, 22 TXD3, 24 TXC, 25 TX_CTL, 27 RXD3/MODE3, 28 RXD2/MODE2, 31 RXD1/MODE1, 32 RXD0/MODE0, 33 RX_CTL/CLK125_EN, 35 RXC/PHYAD2, 36 MDC, 37 MDIO, 38 INT_N/PME_N2/ALLPHYAD, 41 CLK125_NDO/LED_MODE, 42 RESET_N, 45 XO, 46 XI, 47 NC, 48 ISET

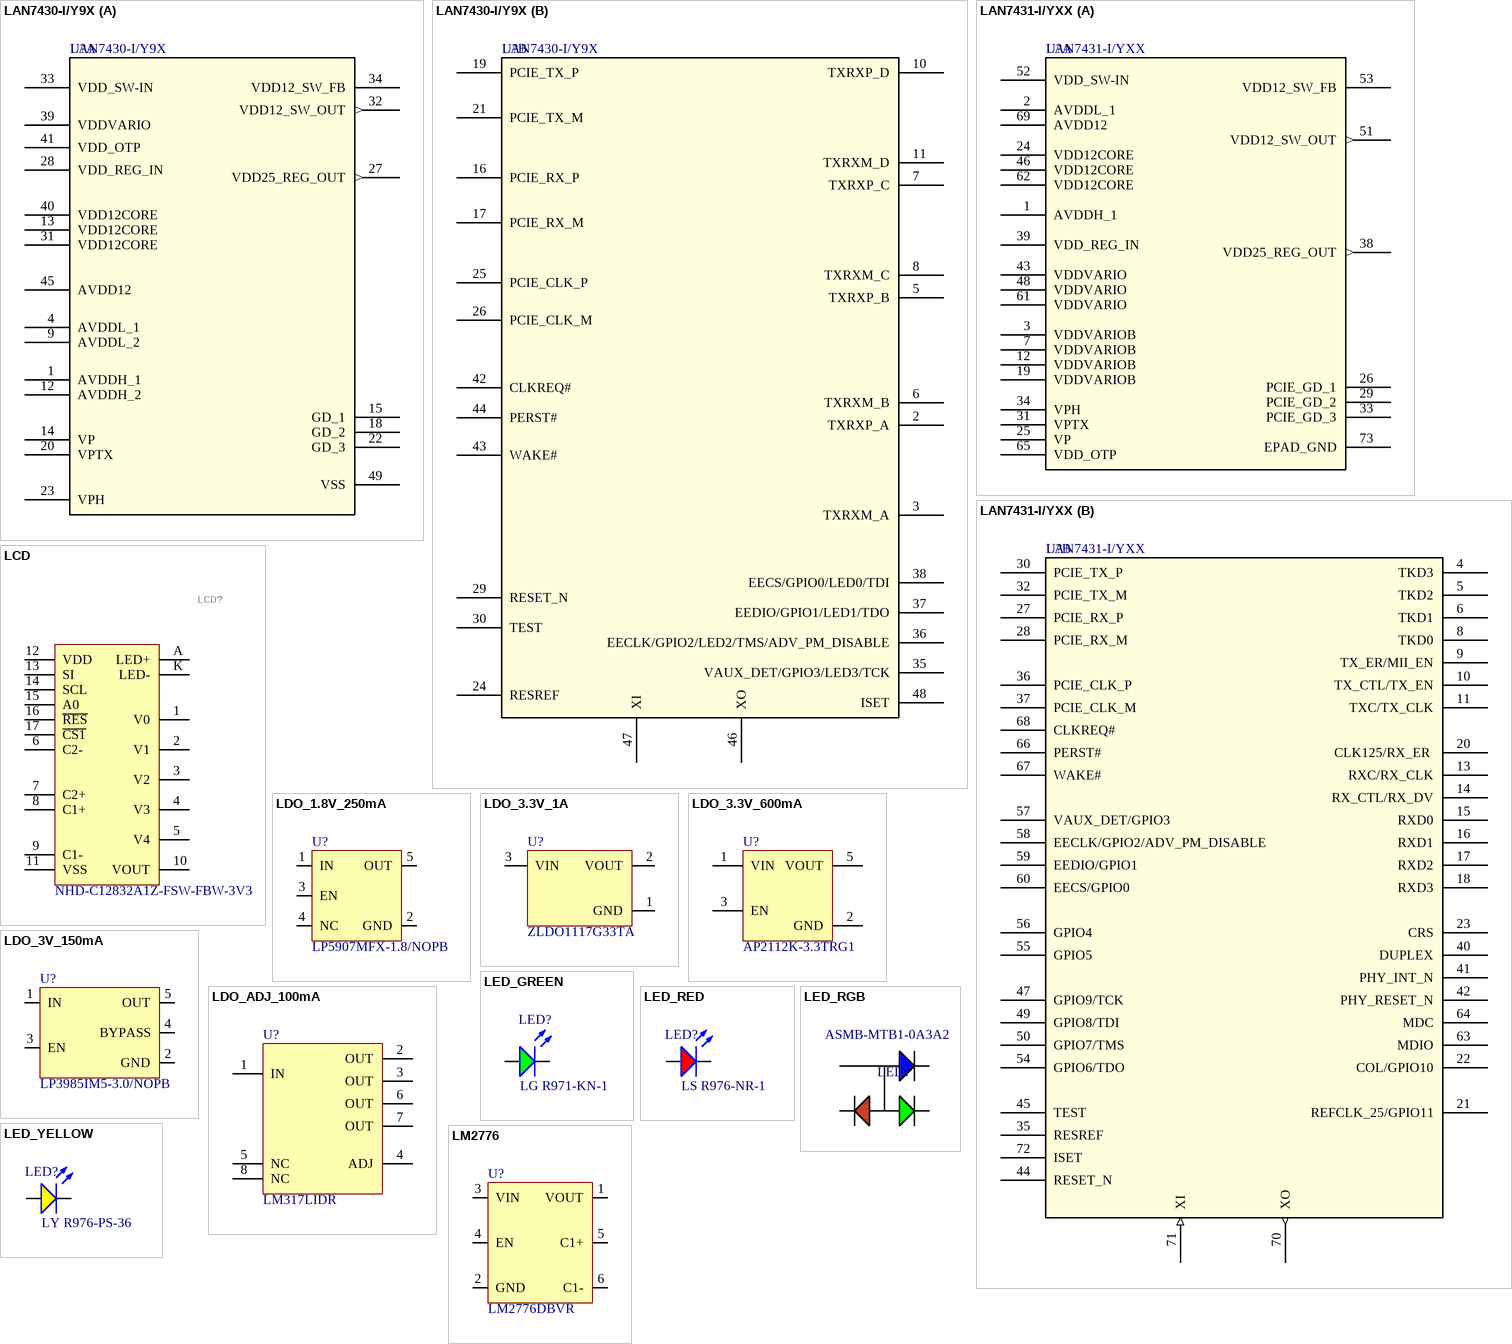
[diagram p7: symbols LAN7430-I/Y9X to LM2776]

## LAN7430-I/Y9X
designator U?  Manufacturer Part Number 1: LAN7430-I/Y9X
IC ETHERNET CNTRLR GPIO 48SQFN; Manufacturer 1: Microchip Technology; Supplier 1: Digi-Key; Supplier Part Number 1: LAN7430-I/Y9X-ND
footprint LAN7430-I/Y9X-ND
part A pins: 1 AVDDH_1 (power), 4 AVDDL_1 (power), 9 AVDDL_2 (power), 12 AVDDH_2 (power), 13 VDD12CORE (power), 14 VP (power), 15 GD_1 (power), 18 GD_2 (power), 20 VPTX (power), 22 GD_3 (power), 23 VPH (power), 27 VDD25_REG_OUT (out), 28 VDD_REG_IN (power), 31 VDD12CORE (power), 32 VDD12_SW_OUT (out), 33 VDD_SW-IN (power), 34 VDD12_SW_FB (power), 39 VDDVARIO (power), 40 VDD12CORE (power), 41 VDD_OTP (power), 45 AVDD12 (power), 49 VSS
part B pins: 2 TXRXP_A, 3 TXRXM_A, 5 TXRXP_B, 6 TXRXM_B, 7 TXRXP_C, 8 TXRXM_C, 10 TXRXP_D, 11 TXRXM_D, 16 PCIE_RX_P, 17 PCIE_RX_M, 19 PCIE_TX_P, 21 PCIE_TX_M, 24 RESREF, 25 PCIE_CLK_P, 26 PCIE_CLK_M, 29 RESET_N, 30 TEST, 35 VAUX_DET/GPIO3/LED3/TCK, 36 EECLK/GPIO2/LED2/TMS/ADV_PM_DISABLE, 37 EEDIO/GPIO1/LED1/TDO, 38 EECS/GPIO0/LED0/TDI, 42 CLKREQ#, 43 WAKE#, 44 PERST#, 46 XO, 47 XI, 48 ISET

## LAN7431-I/YXX
designator U?  Manufacturer Part Number 1: LAN7431-I/YXX
IC ETHERNET CNTRLR GPIO 72SQFN; Manufacturer 1: Microchip; Supplier 1: Digi-Key; Supplier Part Number 1: LAN7431-I/YXX-ND
part A pins: 1 AVDDH_1 (power), 2 AVDDL_1 (power), 3 VDDVARIOB (power), 7 VDDVARIOB (power), 12 VDDVARIOB (power), 19 VDDVARIOB (power), 24 VDD12CORE (power), 25 VP (power), 26 PCIE_GD_1 (power), 29 PCIE_GD_2 (power), 31 VPTX (power), 33 PCIE_GD_3 (power), 34 VPH (power), 38 VDD25_REG_OUT (out), 39 VDD_REG_IN (power), 43 VDDVARIO (power), 46 VDD12CORE (power), 48 VDDVARIO (power), 51 VDD12_SW_OUT (out), 52 VDD_SW-IN (power), 53 VDD12_SW_FB (power), 61 VDDVARIO (power), 62 VDD12CORE (power), 65 VDD_OTP (power), 69 AVDD12 (power), 73 EPAD_GND
part B pins: 4 TKD3, 5 TKD2, 6 TKD1, 8 TKD0, 9 TX_ER/MII_EN, 10 TX_CTL/TX_EN, 11 TXC/TX_CLK, 13 RXC/RX_CLK, 14 RX_CTL/RX_DV, 15 RXD0, 16 RXD1, 17 RXD2, 18 RXD3, 20 CLK125/RX_ER , 21 REFCLK_25/GPIO11, 22 COL/GPIO10, 23 CRS, 27 PCIE_RX_P, 28 PCIE_RX_M, 30 PCIE_TX_P, 32 PCIE_TX_M, 35 RESREF, 36 PCIE_CLK_P, 37 PCIE_CLK_M, 40 DUPLEX, 41 PHY_INT_N, 42 PHY_RESET_N, 44 RESET_N, 45 TEST, 47 GPIO9/TCK, 49 GPIO8/TDI, 50 GPIO7/TMS, 54 GPIO6/TDO, 55 GPIO5, 56 GPIO4, 57 VAUX_DET/GPIO3, 58 EECLK/GPIO2/ADV_PM_DISABLE, 59 EEDIO/GPIO1, 60 EECS/GPIO0, 63 MDIO, 64 MDC, 66 PERST#, 67 WAKE#, 68 CLKREQ#, 70 XO (out), 71 XI (in), 72 ISET

## LCD
designator LCD?  Manufacturer Part Number 1: NHD-C12832A1Z-FSW-FBW-3V3
LCD COG GRAPHIC 128X32; Manufacturer 1: Newhaven Display Intl; Supplier 1: Digi-Key; Supplier Part Number 1: NHD-C12832A1Z-FSW-FBW-3V3-ND
footprint NHDC12832A1ZFSWFBW3V3
pins: 1 V0, 2 V1, 3 V2, 4 V3, 5 V4, 6 C2-, 7 C2+, 8 C1+, 9 C1-, 10 VOUT, 11 VSS, 12 VDD, 13 SI, 14 SCL, 15 A0, 16 ~{RES}, 17 ~{CS1}, A LED+, K LED-

## LDO_1.8V_250mA
designator U?  Manufacturer Part Number 1: LP5907MFX-1.8/NOPB
IC REG LINEAR 1.8V 250MA SOT23-5; Manufacturer 1: Texas Instruments; Current Output: 250mA; Supplier Part Number 1: 296-41463-1-ND; Supplier 1: Digi-Key
footprint LP5907MFX-1.8/NOPB
pins: 1 IN, 2 GND, 3 EN, 4 NC, 5 OUT